# Altium schematic symbol library ProPrj_HTX-easyedapro.SchLib: 117 symbols (part 1 of 2)
Pins are listed as number, name and electrical type; pins without a type are passive.

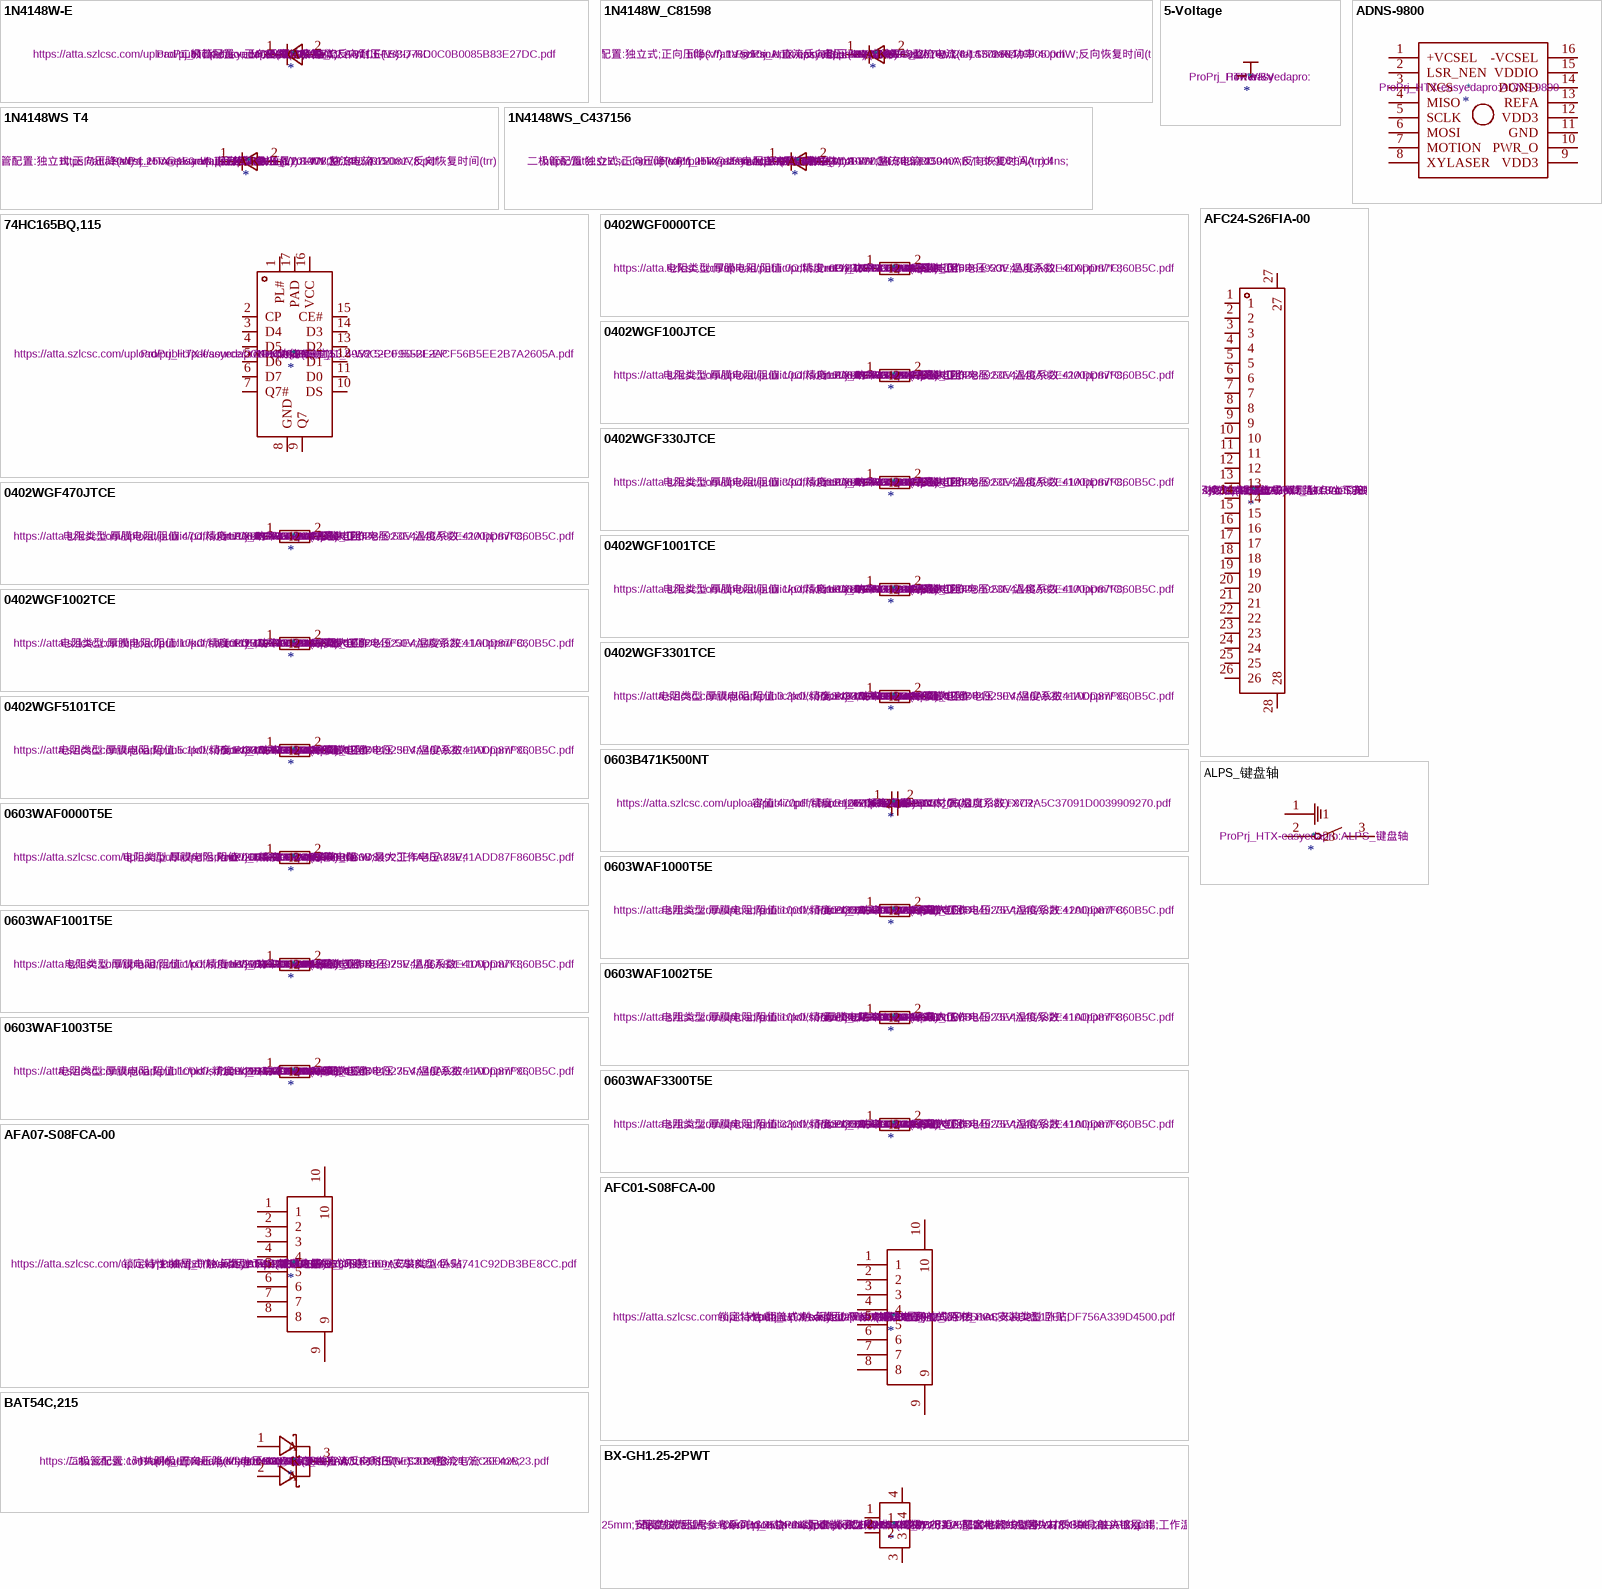
[diagram p0: symbols 1N4148W-E to BX-GH1.25-2PWT]

## 1N4148W-E
designator *  Footprint: ProPrj_HTX-easyedapro:SOD-123_L2.8-W1.6-LS3.7-RD  Supplier: LCSC  Reference: D  Manufacturer Part: 1N4148W-E  Manufacturer: MDD(辰达半导体)  Supplier Part: C41371420  LCSC Part Name: 开关二极管
二极管配置:-;正向压降(Vf):-;直流反向耐压(Vr):-;; Datasheet: https://atta.szlcsc.com/upload/public/pdf/source/20240830/DACFAB1CEFECD76C0C0B0085B83E27DC.pdf; Description_: 二极管配置:-;正向压降(Vf):-;直流反向耐压(Vr):-;
pins: 1 C, 2 A

## 1N4148W_C81598
designator *  Footprint: ProPrj_HTX-easyedapro:SOD-123F_L2.7-W1.6-LS3.8-RD  Supplier: LCSC  Reference: D  Manufacturer Part: 1N4148W  Manufacturer: ST(先科)  Supplier Part: C81598  LCSC Part Name: 电压:75V 电流:150mA
二极管配置:独立式;正向压降(Vf):1V@50mA;直流反向耐压(Vr):75V;平均整流电流(Io):150mA;功率:400mW;反向恢复时间(trr):4ns;; Datasheet: https://atta.szlcsc.com/upload/public/pdf/source/20161024/1477288446905.pdf; Description_: 二极管配置:独立式;正向压降(Vf):1V@50mA;直流反向耐压(Vr):75V;平均整流电流(Io):150mA;功率:400mW;反向恢复时间(trr):4ns;
pins: 1 K, 2 A

## 1N4148WS T4
designator *  Footprint: ProPrj_HTX-easyedapro:SOD-323_L1.8-W1.3-LS2.5-RD  Supplier: LCSC  Reference: D  Manufacturer Part: 1N4148WS  Manufacturer: CJ(江苏长电/长晶)  Supplier Part: C2128  LCSC Part Name: 丝印T4
二极管配置:独立式;正向压降(Vf):1.25V@150mA;直流反向耐压(Vr):100V;整流电流:150mA;反向恢复时间(trr):4ns;; Datasheet: https://atta.szlcsc.com/upload/public/pdf/source/20140809/1457707208178.pdf; Description_: 二极管配置:独立式;正向压降(Vf):1.25V@150mA;直流反向耐压(Vr):100V;整流电流:150mA;反向恢复时间(trr):4ns;
pins: 1 K, 2 A

## 1N4148WS_C437156
designator *  Footprint: ProPrj_HTX-easyedapro:SOD-323_L1.8-W1.3-LS2.5-RD  Supplier: LCSC  Reference: D  Manufacturer Part: 1N4148WS  Manufacturer: MDD(辰达半导体)  Supplier Part: C437156  LCSC Part Name: 电压:100V 电流:150mA
二极管配置:独立式;正向压降(Vf):1.25V@150mA;直流反向耐压(Vr):100V;整流电流:150mA;反向恢复时间(trr):4ns;; Datasheet: https://atta.szlcsc.com/upload/public/pdf/source/20230823/12C4B88004F768DBC940AB716F9D26AA.pdf; Description_: 二极管配置:独立式;正向压降(Vf):1.25V@150mA;直流反向耐压(Vr):100V;整流电流:150mA;反向恢复时间(trr):4ns;
pins: 1 C, 2 A

## 5-Voltage
designator *  Footprint: ProPrj_HTX-easyedapro:  Reference: #PWR
Power-5V; Description_: Power-5V
pins: 1

## 74HC165BQ,115
designator *  Footprint: ProPrj_HTX-easyedapro:DHVQFN-16_L3.5-W2.5-P0.50-BL-EP  Supplier: LCSC  Reference: U  Manufacturer Part: 74HC165BQ,115  Manufacturer: Nexperia(安世)  Supplier Part: C426699
功能:-;; Datasheet: https://atta.szlcsc.com/upload/public/pdf/source/20191114/C456131_4958C2CF9552F2ACF56B5EE2B7A2605A.pdf; Description_: 功能:-;; LCSC Part Name: 74HC165BQ,115
pins: 1 PL#, 2 CP, 3 D4, 4 D5, 5 D6, 6 D7, 7 Q7#, 8 GND, 9 Q7, 10 DS, 11 D0, 12 D1, 13 D2, 14 D3, 15 CE#, 16 VCC, 17 PAD

## 0402WGF0000TCE
designator *  value 0Ω  Footprint: ProPrj_HTX-easyedapro:R0402  Supplier: LCSC  Reference: R  Manufacturer Part: 0402WGF0000TCE  Manufacturer: UNI-ROYAL(厚声)  Supplier Part: C17168  LCSC Part Name: 0Ω ±1% 62.5mW 厚膜电阻
电阻类型:厚膜电阻;阻值:0Ω;精度:±1%;功率:62.5mW;最大工作电压:50V;温度系数:±800ppm/°C;; Datasheet: https://atta.szlcsc.com/upload/public/pdf/source/20200306/C422600_1E6D84923E4A46A82E41ADD87F860B5C.pdf; Description_: 电阻类型:厚膜电阻;阻值:0Ω;精度:±1%;功率:62.5mW;最大工作电压:50V;温度系数:±800ppm/°C;
pins: 1, 2

## 0402WGF100JTCE
designator *  value 10Ω  Footprint: ProPrj_HTX-easyedapro:R0402  Supplier: LCSC  Reference: R  Manufacturer Part: 0402WGF100JTCE  Manufacturer: UNI-ROYAL(厚声)  Supplier Part: C25077  LCSC Part Name: 10Ω ±1% 62.5mW 厚膜电阻
电阻类型:厚膜电阻;阻值:10Ω;精度:±1%;功率:62.5mW;最大工作电压:50V;温度系数:±200ppm/°C;; Datasheet: https://atta.szlcsc.com/upload/public/pdf/source/20200306/C422600_1E6D84923E4A46A82E41ADD87F860B5C.pdf; Description_: 电阻类型:厚膜电阻;阻值:10Ω;精度:±1%;功率:62.5mW;最大工作电压:50V;温度系数:±200ppm/°C;
pins: 1, 2

## 0402WGF330JTCE
designator *  value 33Ω  Footprint: ProPrj_HTX-easyedapro:R0402  Supplier: LCSC  Reference: R  Manufacturer Part: 0402WGF330JTCE  Manufacturer: UNI-ROYAL(厚声)  Supplier Part: C25105  LCSC Part Name: 33Ω ±1% 62.5mW 厚膜电阻
电阻类型:厚膜电阻;阻值:33Ω;精度:±1%;功率:62.5mW;最大工作电压:50V;温度系数:±100ppm/°C;; Datasheet: https://atta.szlcsc.com/upload/public/pdf/source/20200306/C422600_1E6D84923E4A46A82E41ADD87F860B5C.pdf; Description_: 电阻类型:厚膜电阻;阻值:33Ω;精度:±1%;功率:62.5mW;最大工作电压:50V;温度系数:±100ppm/°C;
pins: 1, 2

## 0402WGF470JTCE
designator *  value 47Ω  Footprint: ProPrj_HTX-easyedapro:R0402  Supplier: LCSC  Reference: R  Manufacturer Part: 0402WGF470JTCE  Manufacturer: UNI-ROYAL(厚声)  Supplier Part: C25118  LCSC Part Name: 47Ω ±1% 62.5mW 厚膜电阻
电阻类型:厚膜电阻;阻值:47Ω;精度:±1%;功率:62.5mW;最大工作电压:50V;温度系数:±200ppm/°C;; Datasheet: https://atta.szlcsc.com/upload/public/pdf/source/20200306/C422600_1E6D84923E4A46A82E41ADD87F860B5C.pdf; Description_: 电阻类型:厚膜电阻;阻值:47Ω;精度:±1%;功率:62.5mW;最大工作电压:50V;温度系数:±200ppm/°C;
pins: 1, 2

## 0402WGF1001TCE
designator *  value 1kΩ  Footprint: ProPrj_HTX-easyedapro:R0402  Supplier: LCSC  Reference: R  Manufacturer Part: 0402WGF1001TCE  Manufacturer: UNI-ROYAL(厚声)  Supplier Part: C11702  LCSC Part Name: 1kΩ ±1% 62.5mW 厚膜电阻
电阻类型:厚膜电阻;阻值:1kΩ;精度:±1%;功率:62.5mW;最大工作电压:50V;温度系数:±100ppm/°C;; Datasheet: https://atta.szlcsc.com/upload/public/pdf/source/20200306/C422600_1E6D84923E4A46A82E41ADD87F860B5C.pdf; Description_: 电阻类型:厚膜电阻;阻值:1kΩ;精度:±1%;功率:62.5mW;最大工作电压:50V;温度系数:±100ppm/°C;
pins: 1, 2

## 0402WGF1002TCE
designator *  value 10kΩ  Footprint: ProPrj_HTX-easyedapro:R0402  Supplier: LCSC  Reference: R  Manufacturer Part: 0402WGF1002TCE  Manufacturer: UNI-ROYAL(厚声)  Supplier Part: C25744  LCSC Part Name: 10kΩ ±1% 62.5mW 厚膜电阻
电阻类型:厚膜电阻;阻值:10kΩ;精度:±1%;功率:62.5mW;最大工作电压:50V;温度系数:±100ppm/°C;; Datasheet: https://atta.szlcsc.com/upload/public/pdf/source/20200306/C422600_1E6D84923E4A46A82E41ADD87F860B5C.pdf; Description_: 电阻类型:厚膜电阻;阻值:10kΩ;精度:±1%;功率:62.5mW;最大工作电压:50V;温度系数:±100ppm/°C;
pins: 1, 2

## 0402WGF3301TCE
designator *  value 3.3kΩ  Footprint: ProPrj_HTX-easyedapro:R0402  Supplier: LCSC  Reference: R  Manufacturer Part: 0402WGF3301TCE  Manufacturer: UNI-ROYAL(厚声)  Supplier Part: C25890  LCSC Part Name: 3.3kΩ ±1% 62.5mW 厚膜电阻
电阻类型:厚膜电阻;阻值:3.3kΩ;精度:±1%;功率:62.5mW;最大工作电压:50V;温度系数:±100ppm/°C;; Datasheet: https://atta.szlcsc.com/upload/public/pdf/source/20200306/C422600_1E6D84923E4A46A82E41ADD87F860B5C.pdf; Description_: 电阻类型:厚膜电阻;阻值:3.3kΩ;精度:±1%;功率:62.5mW;最大工作电压:50V;温度系数:±100ppm/°C;
pins: 1, 2

## 0402WGF5101TCE
designator *  value 5.1kΩ  Footprint: ProPrj_HTX-easyedapro:R0402  Supplier: LCSC  Reference: R  Manufacturer Part: 0402WGF5101TCE  Manufacturer: UNI-ROYAL(厚声)  Supplier Part: C25905  LCSC Part Name: 5.1kΩ ±1% 62.5mW 厚膜电阻
电阻类型:厚膜电阻;阻值:5.1kΩ;精度:±1%;功率:62.5mW;最大工作电压:50V;温度系数:±100ppm/°C;; Datasheet: https://atta.szlcsc.com/upload/public/pdf/source/20200306/C422600_1E6D84923E4A46A82E41ADD87F860B5C.pdf; Description_: 电阻类型:厚膜电阻;阻值:5.1kΩ;精度:±1%;功率:62.5mW;最大工作电压:50V;温度系数:±100ppm/°C;
pins: 1, 2

## 0603B471K500NT
designator *  value 470pF  Footprint: ProPrj_HTX-easyedapro:C0603  Supplier: LCSC  Reference: C  Manufacturer Part: 0603B471K500NT  Manufacturer: FH(风华)  Supplier Part: C1620  LCSC Part Name: 470pF ±10% 50V
容值:470pF;精度:±10%;额定电压:50V;材质(温度系数):X7R;; Datasheet: https://atta.szlcsc.com/upload/public/pdf/source/20200305/C486355_26A10D38EF8C2A5C37091D0039909270.pdf; Description_: 容值:470pF;精度:±10%;额定电压:50V;材质(温度系数):X7R;
pins: 1, 2

## 0603WAF0000T5E
designator *  value 0Ω  Footprint: ProPrj_HTX-easyedapro:R0603  Supplier: LCSC  Reference: R  Manufacturer Part: 0603WAF0000T5E  Manufacturer: UNI-ROYAL(厚声)  Supplier Part: C21189  LCSC Part Name: 0Ω ±1% 100mW 厚膜电阻
电阻类型:厚膜电阻;阻值:0Ω;精度:±1%;功率:100mW;最大工作电压:75V;; Datasheet: https://atta.szlcsc.com/upload/public/pdf/source/20200306/C422600_1E6D84923E4A46A82E41ADD87F860B5C.pdf; Description_: 电阻类型:厚膜电阻;阻值:0Ω;精度:±1%;功率:100mW;最大工作电压:75V;
pins: 1, 2

## 0603WAF1000T5E
designator *  value 100Ω  Footprint: ProPrj_HTX-easyedapro:R0603  Supplier: LCSC  Reference: R  Manufacturer Part: 0603WAF1000T5E  Manufacturer: UNI-ROYAL(厚声)  Supplier Part: C22775  LCSC Part Name: 100Ω ±1% 100mW 厚膜电阻
电阻类型:厚膜电阻;阻值:100Ω;精度:±1%;功率:100mW;最大工作电压:75V;温度系数:±200ppm/°C;; Datasheet: https://atta.szlcsc.com/upload/public/pdf/source/20200306/C422600_1E6D84923E4A46A82E41ADD87F860B5C.pdf; Description_: 电阻类型:厚膜电阻;阻值:100Ω;精度:±1%;功率:100mW;最大工作电压:75V;温度系数:±200ppm/°C;
pins: 1, 2

## 0603WAF1001T5E
designator *  value 1kΩ  Footprint: ProPrj_HTX-easyedapro:R0603  Supplier: LCSC  Reference: R  Manufacturer Part: 0603WAF1001T5E  Manufacturer: UNI-ROYAL(厚声)  Supplier Part: C21190  LCSC Part Name: 1kΩ ±1% 100mW 厚膜电阻
电阻类型:厚膜电阻;阻值:1kΩ;精度:±1%;功率:100mW;最大工作电压:75V;温度系数:±100ppm/°C;; Datasheet: https://atta.szlcsc.com/upload/public/pdf/source/20200306/C422600_1E6D84923E4A46A82E41ADD87F860B5C.pdf; Description_: 电阻类型:厚膜电阻;阻值:1kΩ;精度:±1%;功率:100mW;最大工作电压:75V;温度系数:±100ppm/°C;
pins: 1, 2

## 0603WAF1002T5E
designator *  value 10kΩ  Footprint: ProPrj_HTX-easyedapro:R0603  Supplier: LCSC  Reference: R  Manufacturer Part: 0603WAF1002T5E  Manufacturer: UNI-ROYAL(厚声)  Supplier Part: C25804  LCSC Part Name: 厚膜电阻 10kΩ ±1% 100mW
电阻类型:厚膜电阻;阻值:10kΩ;精度:±1%;功率:100mW;最大工作电压:75V;温度系数:±100ppm/°C;; Datasheet: https://atta.szlcsc.com/upload/public/pdf/source/20200306/C422600_1E6D84923E4A46A82E41ADD87F860B5C.pdf; Description_: 电阻类型:厚膜电阻;阻值:10kΩ;精度:±1%;功率:100mW;最大工作电压:75V;温度系数:±100ppm/°C;
pins: 1, 2

## 0603WAF1003T5E
designator *  value 100kΩ  Footprint: ProPrj_HTX-easyedapro:R0603  Supplier: LCSC  Reference: R  Manufacturer Part: 0603WAF1003T5E  Manufacturer: UNI-ROYAL(厚声)  Supplier Part: C25803  LCSC Part Name: 100kΩ ±1% 100mW 厚膜电阻
电阻类型:厚膜电阻;阻值:100kΩ;精度:±1%;功率:100mW;最大工作电压:75V;温度系数:±100ppm/°C;; Datasheet: https://atta.szlcsc.com/upload/public/pdf/source/20200306/C422600_1E6D84923E4A46A82E41ADD87F860B5C.pdf; Description_: 电阻类型:厚膜电阻;阻值:100kΩ;精度:±1%;功率:100mW;最大工作电压:75V;温度系数:±100ppm/°C;
pins: 1, 2

## 0603WAF3300T5E
designator *  value 330Ω  Footprint: ProPrj_HTX-easyedapro:R0603  Supplier: LCSC  Reference: R  Manufacturer Part: 0603WAF3300T5E  Manufacturer: UNI-ROYAL(厚声)  Supplier Part: C23138  LCSC Part Name: 330Ω ±1% 100mW 厚膜电阻
电阻类型:厚膜电阻;阻值:330Ω;精度:±1%;功率:100mW;最大工作电压:75V;温度系数:±100ppm/°C;; Datasheet: https://atta.szlcsc.com/upload/public/pdf/source/20200306/C422600_1E6D84923E4A46A82E41ADD87F860B5C.pdf; Description_: 电阻类型:厚膜电阻;阻值:330Ω;精度:±1%;功率:100mW;最大工作电压:75V;温度系数:±100ppm/°C;
pins: 1, 2

## ADNS-9800
designator *  Footprint: ProPrj_HTX-easyedapro:ADNS-9800
pins: 1 +VCSEL, 2 LSR_NEN, 3 NCS, 4 MISO, 5 SCLK, 6 MOSI, 7 MOTION, 8 XYLASER, 9 VDD3, 10 PWR_O, 11 GND, 12 VDD3, 13 REFA, 14 DGND, 15 VDDIO, 16 -VCSEL

## AFA07-S08FCA-00
designator *  Footprint: ProPrj_HTX-easyedapro:FPC-SMD_8P-P1.00_LCS-XJ  Supplier: LCSC  Reference: FPC  Manufacturer Part: AFA07-S08FCA-00  Manufacturer: JS(钜硕电子)  Supplier Part: C262714  LCSC Part Name: 间距:1mm P数:8P 抽屉式 下接
锁定特性:抽屉式;触点类型:下接;触点数量:8P;间距:1mm;安装类型:卧贴;; Datasheet: https://atta.szlcsc.com/upload/public/pdf/source/20191217/C262716_30B15E9A77BFCA4A54741C92DB3BE8CC.pdf; Description_: 锁定特性:抽屉式;触点类型:下接;触点数量:8P;间距:1mm;安装类型:卧贴;
pins: 1, 2, 3, 4, 5, 6, 7, 8, 9, 10

## AFC01-S08FCA-00
designator *  Footprint: ProPrj_HTX-easyedapro:FPC-SMD_P0.50-8P_FGS-XJ-H2.0  Supplier: LCSC  Reference: FPC  Manufacturer Part: AFC01-S08FCA-00  Manufacturer: JS(钜硕电子)  Supplier Part: C262657  LCSC Part Name: 间距:0.5mm P数:8P 翻盖式 下接
锁定特性:翻盖式;触点类型:下接;触点数量:8P;间距:0.5mm;安装类型:卧贴;; Datasheet: https://atta.szlcsc.com/upload/public/pdf/source/20190816/C413942_2A72D1AC756EAE17EEDF756A339D4500.pdf; Description_: 锁定特性:翻盖式;触点类型:下接;触点数量:8P;间距:0.5mm;安装类型:卧贴;
pins: 1, 2, 3, 4, 5, 6, 7, 8, 9, 10

## AFC24-S26FIA-00
designator *  Footprint: ProPrj_HTX-easyedapro:FPC-SMD_AFC24-S26FIA  Supplier: LCSC  Reference: X  Manufacturer Part: AFC24-S26FIA-00  Manufacturer: JS(钜硕电子)  Supplier Part: C262684  LCSC Part Name: 间距:0.5mm P数:26P 翻盖式 双侧触点/上下接
锁定特性:翻盖式;触点类型:双侧触点/上下接;触点数量:26P;间距:0.5mm;安装类型:卧贴;工作温度范围:-;; Datasheet: https://atta.szlcsc.com/upload/public/pdf/source/20201020/C262682_4418ACDA99370B54C7579F9B07EB16A1.pdf; Description_: 锁定特性:翻盖式;触点类型:双侧触点/上下接;触点数量:26P;间距:0.5mm;安装类型:卧贴;工作温度范围:-;
pins: 1, 2, 3, 4, 5, 6, 7, 8, 9, 10, 11, 12, 13, 14, 15, 16, 17, 18, 19, 20, 21, 22, 23, 24, 25, 26, 27, 28

## ALPS_键盘轴
designator *  Footprint: ProPrj_HTX-easyedapro:ALPS_键盘轴
pins: 1, 2, 3

## BAT54C,215
designator *  Footprint: ProPrj_HTX-easyedapro:SOT-23-3_L2.9-W1.6-P1.90-LS2.8-BR  Supplier: LCSC  Reference: D  Manufacturer Part: BAT54C,215  Manufacturer: Nexperia(安世)  Supplier Part: C37704  LCSC Part Name: 电压:30V 电流:200mA
二极管配置:1对共阴极;正向压降(Vf):800mV@100mA;直流反向耐压(Vr):30V;整流电流:200mA;; Datasheet: https://atta.szlcsc.com/upload/public/pdf/source/20240724/0FA4CD208E70EC919F34217EC6E42B23.pdf; Description_: 二极管配置:1对共阴极;正向压降(Vf):800mV@100mA;直流反向耐压(Vr):30V;整流电流:200mA;
pins: 1 A, 2 A, 3 K

## BX-GH1.25-2PWT
designator *  Footprint: ProPrj_HTX-easyedapro:CONN-SMD_2P-P1.25_BX-GH1.25-2PWT  Supplier: LCSC  Reference: U  Manufacturer Part: BX-GH1.25-2PWT  Manufacturer: Bossie(博锡)  Supplier Part: C18077718  LCSC Part Name: 配套胶壳型号：BX-GH1.25-2PJK 配套端子型号：BX-GH1.25-DZ 配套杜邦线型号：BX-GH1.25-2PBXC
插针结构:1x2P;间距:1.25mm;安装方式:卧贴;参考系列:GH;总PIN数:2P;排数:1;每排PIN数:2;行距:-;额定电流:1A;触头材质:磷铜;触头镀层:锡;工作温度范围:-25°C~+85°C;; Datasheet: https://atta.szlcsc.com/upload/public/pdf/source/20231017/25DD0A5C9398B9B8D9D2789B9E1BDAD3.pdf; Description_: 插针结构:1x2P;间距:1.25mm;安装方式:卧贴;参考系列:GH;总PIN数:2P;排数:1;每排PIN数:2;行距:-;额定电流:1A;触头材质:磷铜;触头镀层:锡;工作温度范围:-25°C~+85°C;
pins: 1, 2, 3, 4

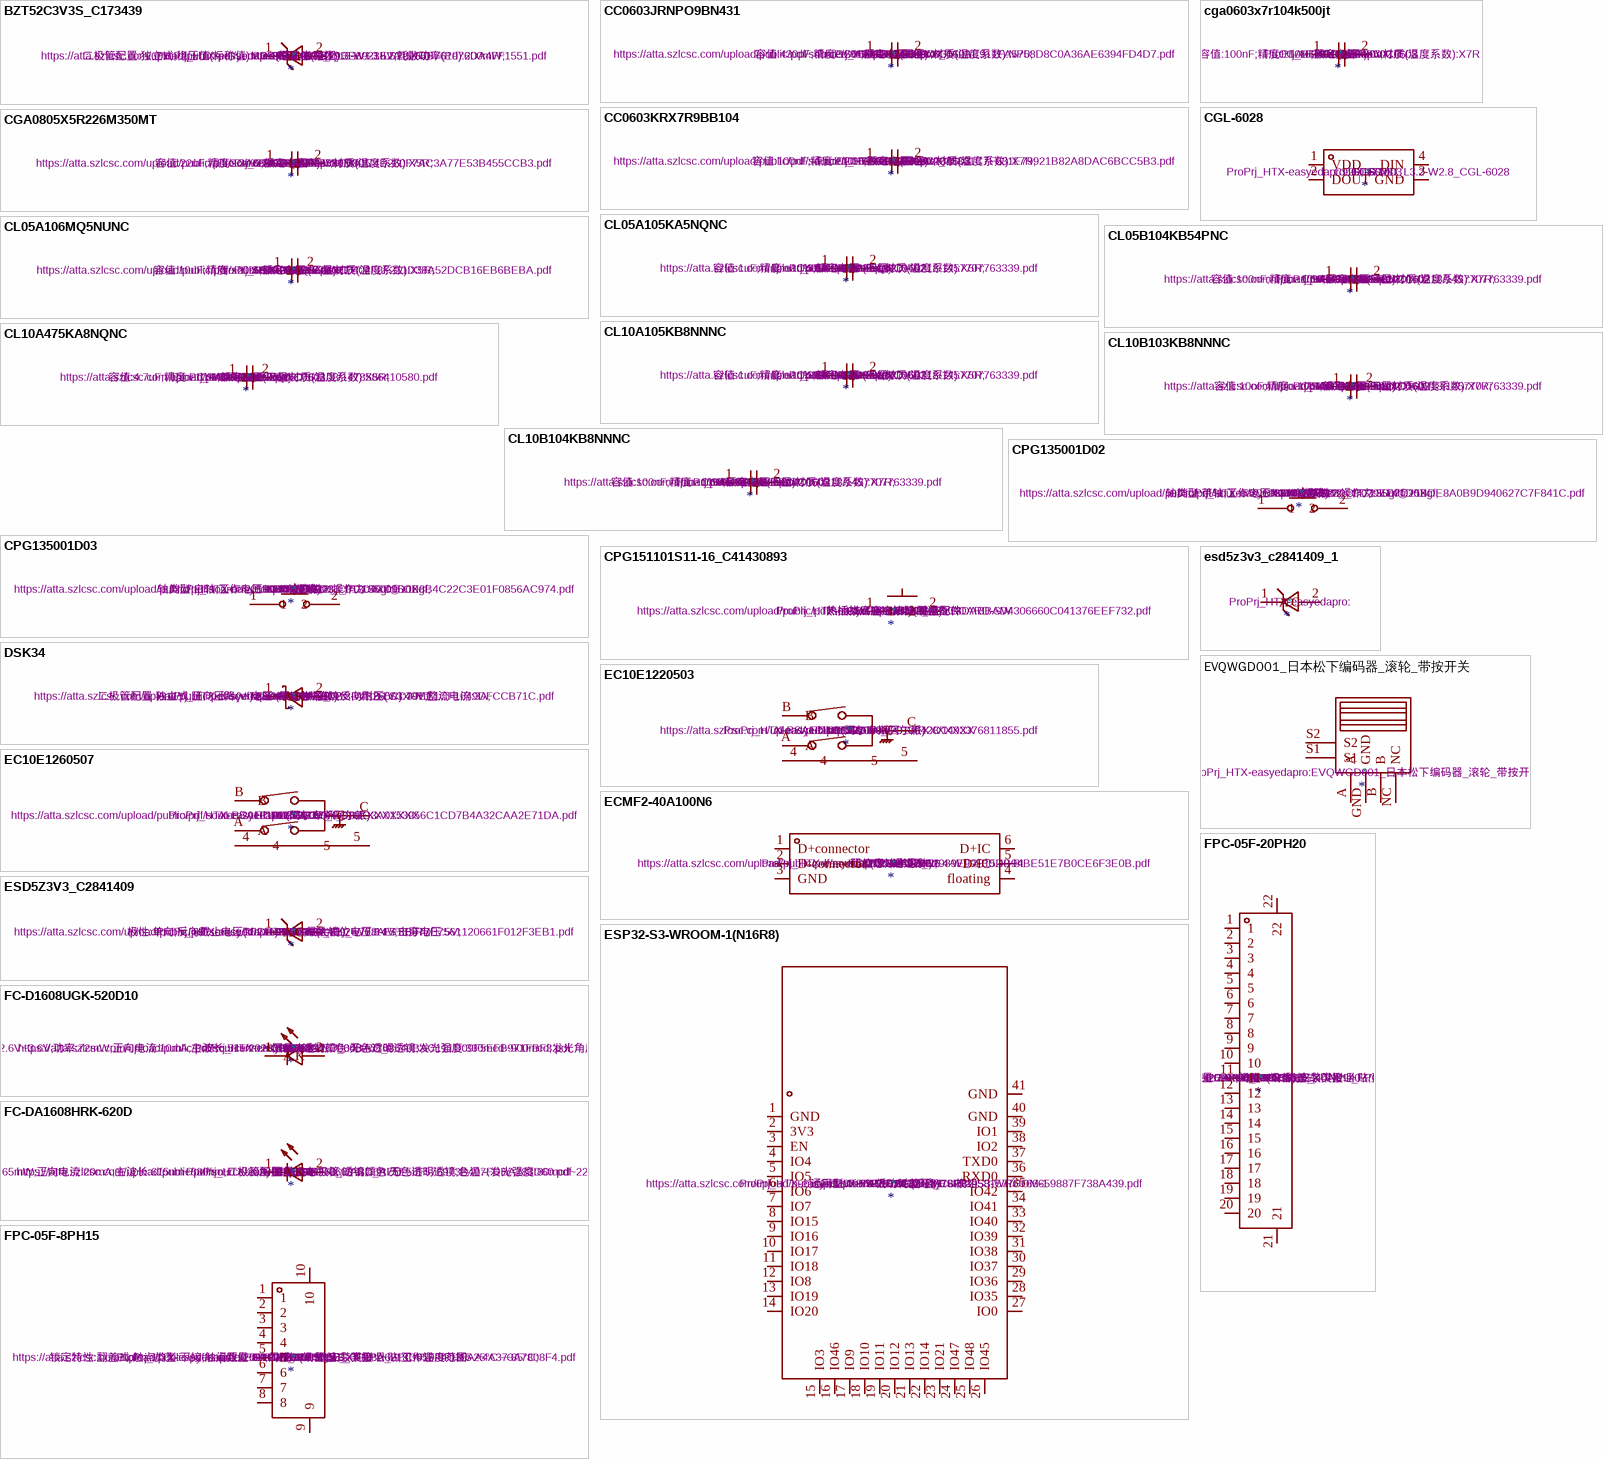
[diagram p1: symbols BZT52C3V3S_C173439 to FPC-05F-20PH20]

## BZT52C3V3S_C173439
designator *  Footprint: ProPrj_HTX-easyedapro:SOD-323_L1.8-W1.3-LS2.5-RD  Supplier: LCSC  Reference: D  Manufacturer Part: BZT52C3V3S  Manufacturer: MDD(辰达半导体)  Supplier Part: C173439
二极管配置:独立式;稳压值(标称值):3.3V;稳压值(范围):3.1V~3.5V;耗散功率(Pd):200mW;; Datasheet: https://atta.szlcsc.com/upload/public/pdf/source/20241121/729EE6921E2A1D86B761976DA4FF1551.pdf; Description_: 二极管配置:独立式;稳压值(标称值):3.3V;稳压值(范围):3.1V~3.5V;耗散功率(Pd):200mW;; LCSC Part Name: BZT52C3V3S
pins: 1, 2

## CC0603JRNPO9BN431
designator *  value 430pF  Footprint: ProPrj_HTX-easyedapro:C0603  Supplier: LCSC  Reference: C  Manufacturer Part: CC0603JRNPO9BN431  Manufacturer: YAGEO(国巨)  Supplier Part: C309472  LCSC Part Name: 430pF ±5% 50V
容值:430pF;精度:±5%;额定电压:50V;材质(温度系数):NP0;; Datasheet: https://atta.szlcsc.com/upload/public/pdf/source/20191125/C354976_4A9AE911FA5758D8C0A36AE6394FD4D7.pdf; Description_: 容值:430pF;精度:±5%;额定电压:50V;材质(温度系数):NP0;
pins: 1, 2

## CC0603KRX7R9BB104
designator *  value 100nF  Footprint: ProPrj_HTX-easyedapro:C0603  Supplier: LCSC  Reference: C  Manufacturer Part: CC0603KRX7R9BB104  Manufacturer: YAGEO(国巨)  Supplier Part: C14663  LCSC Part Name: 100nF ±10% 50V
容值:100nF;精度:±10%;额定电压:50V;材质(温度系数):X7R;; Datasheet: https://atta.szlcsc.com/upload/public/pdf/source/20180910/C282072_33301C7F631E79921B82A8DAC6BCC5B3.pdf; Description_: 容值:100nF;精度:±10%;额定电压:50V;材质(温度系数):X7R;
pins: 1, 2

## cga0603x7r104k500jt
designator *  value 100nF  Footprint: ProPrj_HTX-easyedapro:C0603  Supplier: LCSC  Reference: C  Manufacturer Part: CGA0603X7R104K500JT  Manufacturer: HRE(芯声)  Supplier Part: C6119867  LCSC Part Name: 100nF ±10% 50V
容值:100nF;精度:±10%;额定电压:50V;材质(温度系数):X7R;; Description_: 容值:100nF;精度:±10%;额定电压:50V;材质(温度系数):X7R;
pins: 1, 2

## CGA0805X5R226M350MT
designator *  value 22uF  Footprint: ProPrj_HTX-easyedapro:C0805  Supplier: LCSC  Reference: C  Manufacturer Part: CGA0805X5R226M350MT  Manufacturer: HRE(芯声)  Supplier Part: C6119901  LCSC Part Name: 22uF ±20% 35V
容值:22uF;精度:±20%;额定电压:35V;材质(温度系数):X5R;; Datasheet: https://atta.szlcsc.com/upload/public/pdf/source/20231129/D589D0CC4D260F7AC3A77E53B455CCB3.pdf; Description_: 容值:22uF;精度:±20%;额定电压:35V;材质(温度系数):X5R;
pins: 1, 2

## CGL-6028
designator *  Footprint: ProPrj_HTX-easyedapro:LED-SMD_L3.2-W2.8_CGL-6028  Supplier: LCSC  Reference: U  Manufacturer Part: CGL-6028  Supplier Part: C9900171003
LCSC Part Name: CGL-6028
pins: 1 VDD, 2 DOUT, 3 GND, 4 DIN

## CL05A105KA5NQNC
designator *  value 1uF  Footprint: ProPrj_HTX-easyedapro:C0402  Supplier: LCSC  Reference: C  Manufacturer Part: CL05A105KA5NQNC  Manufacturer: SAMSUNG(三星)  Supplier Part: C52923  LCSC Part Name: 1uF ±10% 25V
容值:1uF;精度:±10%;额定电压:25V;材质(温度系数):X5R;; Datasheet: https://atta.szlcsc.com/upload/public/pdf/source/20160218/1457707763339.pdf; Description_: 容值:1uF;精度:±10%;额定电压:25V;材质(温度系数):X5R;
pins: 1, 2

## CL05A106MQ5NUNC
designator *  value 10uF  Footprint: ProPrj_HTX-easyedapro:C0402  Supplier: LCSC  Reference: C  Manufacturer Part: CL05A106MQ5NUNC  Manufacturer: SAMSUNG(三星)  Supplier Part: C15525  LCSC Part Name: 10uF ±20% 6.3V
容值:10uF;精度:±20%;额定电压:6.3V;材质(温度系数):X5R;; Datasheet: https://atta.szlcsc.com/upload/public/pdf/source/20220823/2B02EE04F8F211D38A52DCB16EB6BEBA.pdf; Description_: 容值:10uF;精度:±20%;额定电压:6.3V;材质(温度系数):X5R;
pins: 1, 2

## CL05B104KB54PNC
designator *  value 100nF  Footprint: ProPrj_HTX-easyedapro:C0402  Supplier: LCSC  Reference: C  Manufacturer Part: CL05B104KB54PNC  Manufacturer: SAMSUNG(三星)  Supplier Part: C307331  LCSC Part Name: 100nF ±10% 50V
容值:100nF;精度:±10%;额定电压:50V;材质(温度系数):X7R;; Datasheet: https://atta.szlcsc.com/upload/public/pdf/source/20160218/1457707763339.pdf; Description_: 容值:100nF;精度:±10%;额定电压:50V;材质(温度系数):X7R;
pins: 1, 2

## CL10A105KB8NNNC
designator *  value 1uF  Footprint: ProPrj_HTX-easyedapro:C0603  Supplier: LCSC  Reference: C  Manufacturer Part: CL10A105KB8NNNC  Manufacturer: SAMSUNG(三星)  Supplier Part: C15849  LCSC Part Name: 1uF ±10% 50V
容值:1uF;精度:±10%;额定电压:50V;材质(温度系数):X5R;; Datasheet: https://atta.szlcsc.com/upload/public/pdf/source/20160218/1457707763339.pdf; Description_: 容值:1uF;精度:±10%;额定电压:50V;材质(温度系数):X5R;
pins: 1, 2

## CL10A475KA8NQNC
designator *  value 4.7uF  Footprint: ProPrj_HTX-easyedapro:C0603  Supplier: LCSC  Reference: C  Manufacturer Part: CL10A475KA8NQNC  Manufacturer: SAMSUNG(三星)  Supplier Part: C69335  LCSC Part Name: 4.7uF ±10% 25V
容值:4.7uF;精度:±10%;额定电压:25V;材质(温度系数):X5R;; Datasheet: https://atta.szlcsc.com/upload/public/pdf/source/20161108/1478586410580.pdf; Description_: 容值:4.7uF;精度:±10%;额定电压:25V;材质(温度系数):X5R;
pins: 1, 2

## CL10B103KB8NNNC
designator *  value 10nF  Footprint: ProPrj_HTX-easyedapro:C0603  Supplier: LCSC  Reference: C  Manufacturer Part: CL10B103KB8NNNC  Manufacturer: SAMSUNG(三星)  Supplier Part: C1589  LCSC Part Name: 10nF ±10% 50V
容值:10nF;精度:±10%;额定电压:50V;材质(温度系数):X7R;; Datasheet: https://atta.szlcsc.com/upload/public/pdf/source/20160218/1457707763339.pdf; Description_: 容值:10nF;精度:±10%;额定电压:50V;材质(温度系数):X7R;
pins: 1, 2

## CL10B104KB8NNNC
designator *  value 100nF  Footprint: ProPrj_HTX-easyedapro:C0603  Supplier: LCSC  Reference: C  Manufacturer Part: CL10B104KB8NNNC  Manufacturer: SAMSUNG(三星)  Supplier Part: C1591  LCSC Part Name: 100nF ±10% 50V
容值:100nF;精度:±10%;额定电压:50V;材质(温度系数):X7R;; Datasheet: https://atta.szlcsc.com/upload/public/pdf/source/20160218/1457707763339.pdf; Description_: 容值:100nF;精度:±10%;额定电压:50V;材质(温度系数):X7R;
pins: 1, 2

## CPG135001D02
designator *  Footprint: ProPrj_HTX-easyedapro:KEY-TH_CPG135001D0X  Supplier: LCSC  Reference: SW  Manufacturer Part: CPG135001D02  Manufacturer: Kailh(凯华)  Supplier Part: C400230  LCSC Part Name: CHOC 茶轴
轴类型:茶轴;工作电压:12V;针脚数:2;操作力:50gf@±10gf;; Datasheet: https://atta.szlcsc.com/upload/public/pdf/source/20190626/C400230_CD79EE7C25BDE8A0B9D940627C7F841C.pdf; Description_: 轴类型:茶轴;工作电压:12V;针脚数:2;操作力:50gf@±10gf;
pins: 1, 2

## CPG135001D03
designator *  Footprint: ProPrj_HTX-easyedapro:KEY-TH_CPG135001D0X  Supplier: LCSC  Reference: SW  Manufacturer Part: CPG135001D03  Manufacturer: Kailh(凯华)  Supplier Part: C400231  LCSC Part Name: CHOC 白轴
轴类型:白轴;工作电压:12V;针脚数:2;操作力:50gf@±10gf;; Datasheet: https://atta.szlcsc.com/upload/public/pdf/source/20190626/C400231_01804CD96CE8B4C22C3E01F0856AC974.pdf; Description_: 轴类型:白轴;工作电压:12V;针脚数:2;操作力:50gf@±10gf;
pins: 1, 2

## CPG151101S11-16_C41430893
designator *  Footprint: ProPrj_HTX-easyedapro:SMD_KEYBOARD-SW  Supplier: LCSC  Reference: U  Manufacturer Part: CPG151101S11-16  Manufacturer: HanElectricity(瀚源)  Supplier Part: C41430893
热插拔底座连接器 键盘配件; Datasheet: https://atta.szlcsc.com/upload/public/pdf/source/20241016/CAB9C3DABBAD4306660C041376EEF732.pdf; Description_: 热插拔底座连接器 键盘配件; LCSC Part Name: 热插拔底座连接器 键盘配件
pins: 1, 2

## DSK34
designator *  Footprint: ProPrj_HTX-easyedapro:SOD-123_L2.8-W1.8-LS3.7-RD  Supplier: LCSC  Reference: D  Manufacturer Part: DSK34  Manufacturer: MDD(辰达半导体)  Supplier Part: C41029  LCSC Part Name: 电压:40V 电流:3A
二极管配置:独立式;正向压降(Vf):550mV@3A;直流反向耐压(Vr):40V;整流电流:3A;; Datasheet: https://atta.szlcsc.com/upload/public/pdf/source/20230823/59DBCD4B265CD39EE1CF1649DFCCB71C.pdf; Description_: 二极管配置:独立式;正向压降(Vf):550mV@3A;直流反向耐压(Vr):40V;整流电流:3A;
pins: 1 K, 2 A

## EC10E1220503
designator *  Footprint: ProPrj_HTX-easyedapro:SW-TH_EC10EXXXXXXX  Supplier: LCSC  Reference: SW  Manufacturer Part: EC10E1220503  Manufacturer: ALPSALPINE(阿尔卑斯阿尔派)  Supplier Part: C110291
Datasheet: https://atta.szlcsc.com/upload/public/pdf/source/20170428/1493376811855.pdf; LCSC Part Name: EC10E1220503
pins: 4, 5, A, B, C

## EC10E1260507
designator *  Footprint: ProPrj_HTX-easyedapro:SW-TH_EC10EXXXXXXX  Supplier: LCSC  Reference: SW  Manufacturer Part: EC10E1260507  Manufacturer: ALPSALPINE(阿尔卑斯阿尔派)  Supplier Part: C470633
Datasheet: https://atta.szlcsc.com/upload/public/pdf/source/20191216/C470744_98DC3A0153956C1CD7B4A32CAA2E71DA.pdf; LCSC Part Name: EC10E1260507
pins: 4, 5, A, B, C

## ECMF2-40A100N6
designator *  value 3Ω  Footprint: ProPrj_HTX-easyedapro:TDFN-6_L1.4-W1.2-P0.40-BL  Supplier: LCSC  Reference: L  Manufacturer Part: ECMF2-40A100N6  Manufacturer: ST(意法半导体)  Supplier Part: C5267592
阻值:3Ω;通道数:2;; Datasheet: https://atta.szlcsc.com/upload/public/pdf/source/20230906/1E2989E99E15DB94BE51E7B0CE6F3E0B.pdf; Description_: 阻值:3Ω;通道数:2;; LCSC Part Name: ECMF2-40A100N6
pins: 1 D+connector, 2 D-connector, 3 GND, 4 floating, 5 D-IC, 6 D+IC

## ESD5Z3V3_C2841409
designator *  Footprint: ProPrj_HTX-easyedapro:SOD-523_L1.2-W0.8-LS1.6-RD  Supplier: LCSC  Reference: D  Manufacturer Part: ESD5Z3V3  Manufacturer: TECH PUBLIC(台舟)  Supplier Part: C2841409
极性:单向;反向截止电压(Vrwm):3.3V;最大钳位电压:14V;击穿电压:5V;; Datasheet: https://atta.szlcsc.com/upload/public/pdf/source/20211010/C2841409_E778AEF8B577E7561120661F012F3EB1.pdf; Description_: 极性:单向;反向截止电压(Vrwm):3.3V;最大钳位电压:14V;击穿电压:5V;; LCSC Part Name: ESD5Z3V3
pins: 1 C, 2 A

## esd5z3v3_c2841409_1
designator *  Footprint: ProPrj_HTX-easyedapro:  Reference: D
pins: 1 C, 2 A

## ESP32-S3-WROOM-1(N16R8)
designator *  Footprint: ProPrj_HTX-easyedapro:WIRELM-SMD_ESP32-S3-WROOM-1  Supplier: LCSC  Reference: U  Manufacturer Part: ESP32-S3-WROOM-1-N16R8  Manufacturer: ESPRESSIF(乐鑫)  Supplier Part: C2913202  LCSC Part Name: 通用型Wi-Fi+低功耗蓝牙MCU模组
Datasheet: https://atta.szlcsc.com/upload/public/pdf/source/20220705/4E799F39581577F766659887F738A439.pdf
pins: 1 GND, 2 3V3, 3 EN, 4 IO4, 5 IO5, 6 IO6, 7 IO7, 8 IO15, 9 IO16, 10 IO17, 11 IO18, 12 IO8, 13 IO19, 14 IO20, 15 IO3, 16 IO46, 17 IO9, 18 IO10, 19 IO11, 20 IO12, 21 IO13, 22 IO14, 23 IO21, 24 IO47, 25 IO48, 26 IO45, 27 IO0, 28 IO35, 29 IO36, 30 IO37, 31 IO38, 32 IO39, 33 IO40, 34 IO41, 35 IO42, 36 RXD0, 37 TXD0, 38 IO2, 39 IO1, 40 GND, 41 GND

## EVQWGD001_日本松下编码器_滚轮_带按开关
designator *  Footprint: ProPrj_HTX-easyedapro:EVQWGD001_日本松下编码器_滚轮_带按开关
pins: A, B, GND, NC, S1, S2

## FC-D1608UGK-520D10
designator *  Footprint: ProPrj_HTX-easyedapro:LED0603-RD_1  Supplier: LCSC  Reference: LED  Manufacturer Part: NCD0603G1  Manufacturer: 国星光电  Supplier Part: C84267
发光颜色:翠绿色;正向电压(VF):2.6V~3.6V;功率:72mW;正向电流:10mA;主波长:515nm~530nm;透镜颜色:无色透明透镜;发光强度:330mcd~900mcd;发光角度:130°;工作温度:-30°C~+85°C;; Datasheet: https://atta.szlcsc.com/upload/public/pdf/source/20200820/C84267_04BA7703640BAC111D09F5EFB971FBF3.pdf; Description_: 发光颜色:翠绿色;正向电压(VF):2.6V~3.6V;功率:72mW;正向电流:10mA;主波长:515nm~530nm;透镜颜色:无色透明透镜;发光强度:330mcd~900mcd;发光角度:130°;工作温度:-30°C~+85°C;; LCSC Part Name: NCD0603G1
pins: 1 K, 2 A

## FC-DA1608HRK-620D
designator *  Footprint: ProPrj_HTX-easyedapro:LED0603-RD_RED  Supplier: LCSC  Reference: LED  Manufacturer Part: NCD0603R1  Manufacturer: 国星光电  Supplier Part: C84263
灯头类型:-;发光颜色:红色;正向电压(VF):1.6V~2.6V;功率:65mW;正向电流:20mA;主波长:615nm~630nm;二极管配置:独立二极管;透镜颜色:无色透明透镜;色温:-;发光强度:80mcd~220mcd;发光角度:130°;载带方式:-;工作温度:-30°C~+85°C;; Datasheet: https://atta.szlcsc.com/upload/public/pdf/source/20200820/C84263_DABC6A75E58F576973B407FDBA283D60.pdf; Description_: 灯头类型:-;发光颜色:红色;正向电压(VF):1.6V~2.6V;功率:65mW;正向电流:20mA;主波长:615nm~630nm;二极管配置:独立二极管;透镜颜色:无色透明透镜;色温:-;发光强度:80mcd~220mcd;发光角度:130°;载带方式:-;工作温度:-30°C~+85°C;; LCSC Part Name: NCD0603R1
pins: 1 K, 2 A

## FPC-05F-8PH15
designator *  Footprint: ProPrj_HTX-easyedapro:FPC-SMD_8P-P0.50_XUNPU_FPC-05F-8PH15  Supplier: LCSC  Reference: FPC  Manufacturer Part: FPC-05F-8PH15  Manufacturer: XUNPU(讯普)  Supplier Part: C2856815  LCSC Part Name: 间距:0.5mm P数:8P 翻盖式 下接
锁定特性:翻盖式;触点类型:下接;触点数量:8P;间距:0.5mm;安装类型:卧贴;工作温度范围:-25°C~+85°C;; Datasheet: https://atta.szlcsc.com/upload/public/pdf/source/20210922/C2856815_0EE8A6918D919F4C35AA4A373A7808F4.pdf; Description_: 锁定特性:翻盖式;触点类型:下接;触点数量:8P;间距:0.5mm;安装类型:卧贴;工作温度范围:-25°C~+85°C;
pins: 1, 2, 3, 4, 5, 6, 7, 8, 9, 10

## FPC-05F-20PH20
designator *  Footprint: ProPrj_HTX-easyedapro:FPC-SMD_20P-P0.50_XUNPU_FPC-05F-20PH20  Supplier: LCSC  Reference: FPC  Manufacturer Part: FPC-05F-20PH20  Manufacturer: XUNPU(讯普)  Supplier Part: C2856803  LCSC Part Name: 间距:0.5mm P数:20P 翻盖式 下接
锁定特性:翻盖式;触点类型:下接;触点数量:20P;间距:0.5mm;安装类型:卧贴;工作温度范围:-25°C~+85°C;; Datasheet: https://atta.szlcsc.com/upload/public/pdf/source/20210922/C2856803_40AC94077DCDAD136B773224EC50E565.pdf; Description_: 锁定特性:翻盖式;触点类型:下接;触点数量:20P;间距:0.5mm;安装类型:卧贴;工作温度范围:-25°C~+85°C;
pins: 1, 2, 3, 4, 5, 6, 7, 8, 9, 10, 11, 12, 13, 14, 15, 16, 17, 18, 19, 20, 21, 22

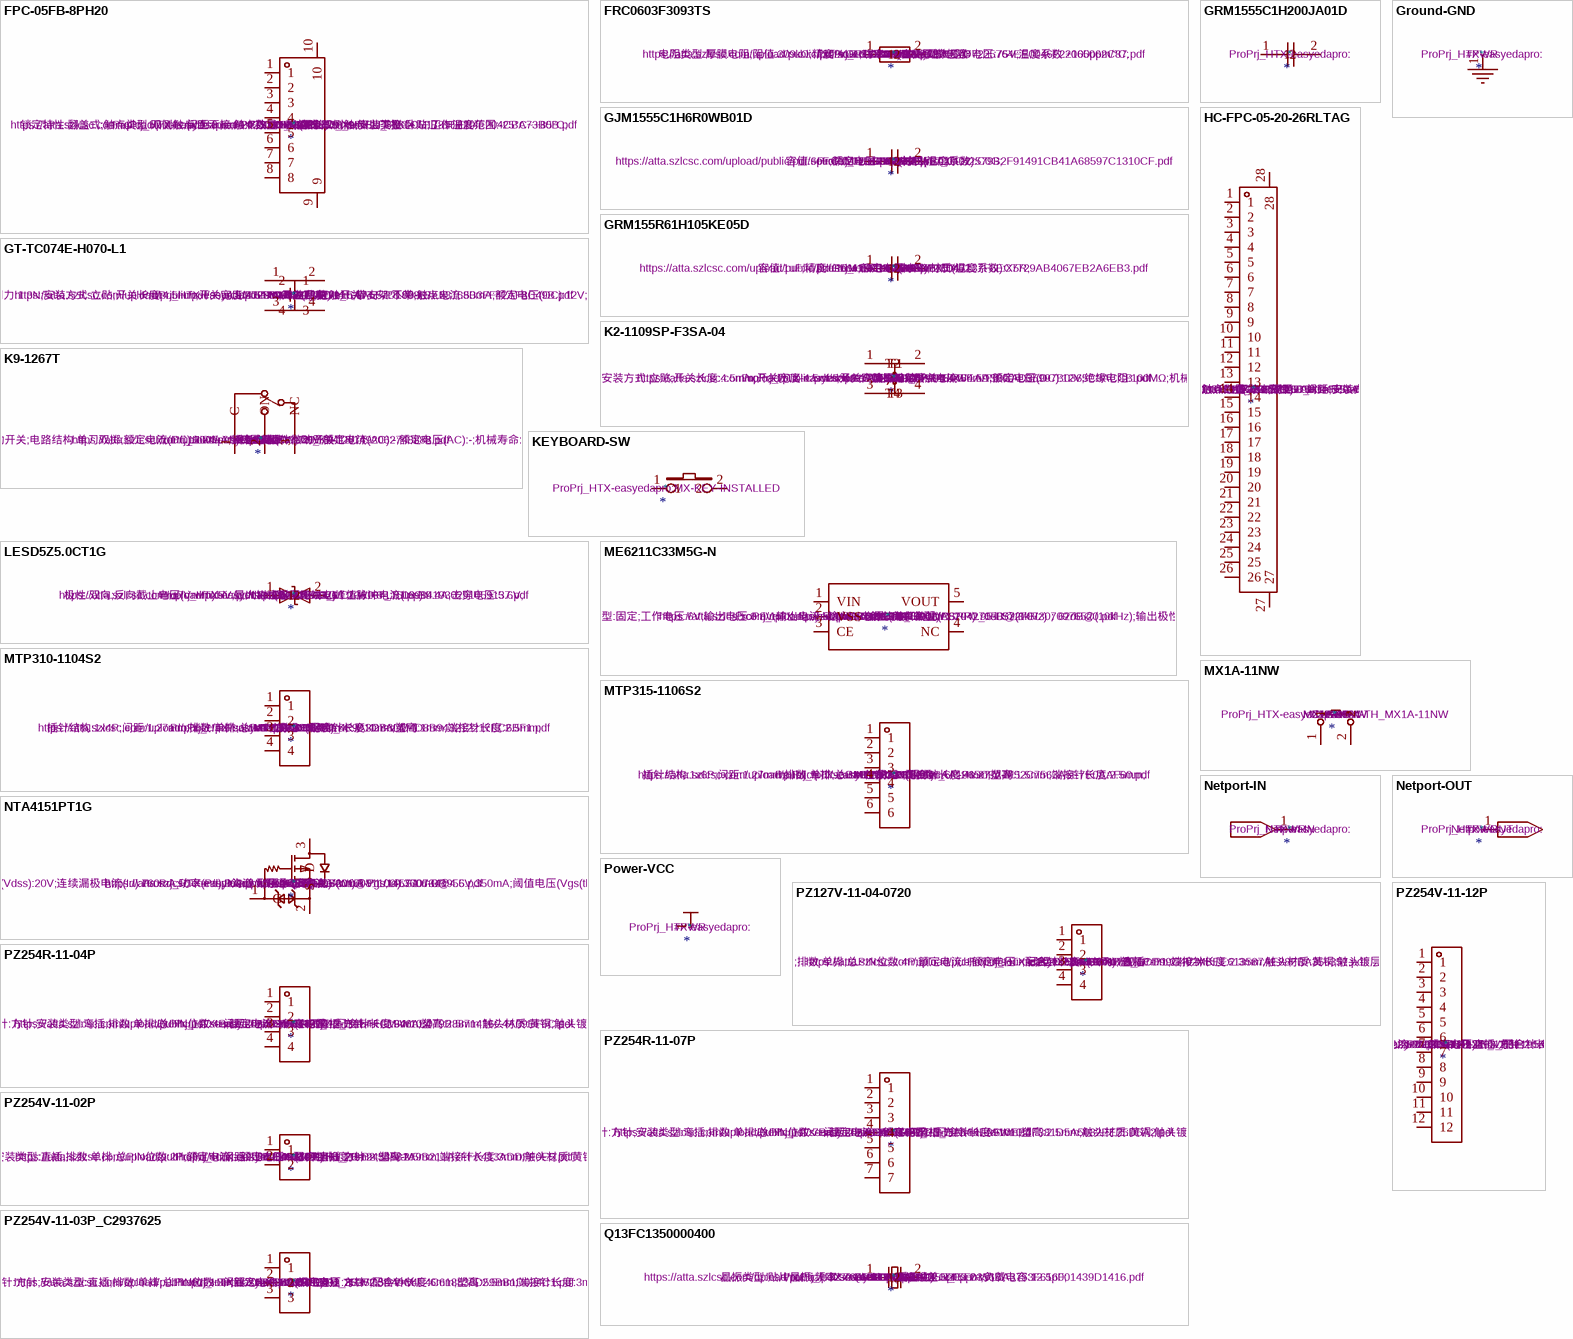
[diagram p2: symbols FPC-05FB-8PH20 to Q13FC1350000400]

## FPC-05FB-8PH20
designator *  Footprint: ProPrj_HTX-easyedapro:FPC-SMD_8P-P0.50_XUNPU_FPC-05FB-8PH20  Supplier: LCSC  Reference: FPC  Manufacturer Part: FPC-05FB-8PH20  Manufacturer: XUNPU(讯普)  Supplier Part: C2856828  LCSC Part Name: 间距:0.5mm P数:8P 翻盖式 双侧触点/上下接
锁定特性:翻盖式;触点类型:双侧触点/上下接;触点数量:8P;间距:0.5mm;安装类型:卧贴;工作温度范围:-25°C~+85°C;; Datasheet: https://atta.szlcsc.com/upload/public/pdf/source/20210922/C2856828_96968FB666CC1781EEE4F204CBA73B0B.pdf; Description_: 锁定特性:翻盖式;触点类型:双侧触点/上下接;触点数量:8P;间距:0.5mm;安装类型:卧贴;工作温度范围:-25°C~+85°C;
pins: 1, 2, 3, 4, 5, 6, 7, 8, 9, 10

## FRC0603F3093TS
designator *  value 309kΩ  Footprint: ProPrj_HTX-easyedapro:R0603  Supplier: LCSC  Reference: U  Manufacturer Part: FRC0603F3093TS  Manufacturer: FOJAN(富捷)  Supplier Part: C2999532  LCSC Part Name: 309kΩ ±1% 100mW 厚膜电阻
电阻类型:厚膜电阻;阻值:309kΩ;精度:±1%;功率:100mW;最大工作电压:75V;温度系数:±100ppm/°C;; Datasheet: https://atta.szlcsc.com/upload/public/pdf/source/20211221/925EC7D7225764EE0046F22065062C87.pdf; Description_: 电阻类型:厚膜电阻;阻值:309kΩ;精度:±1%;功率:100mW;最大工作电压:75V;温度系数:±100ppm/°C;
pins: 1, 2

## GJM1555C1H6R0WB01D
designator *  value 6pF  Footprint: ProPrj_HTX-easyedapro:C0402  Supplier: LCSC  Reference: C  Manufacturer Part: GJM1555C1H6R0WB01D  Manufacturer: muRata(村田)  Supplier Part: C882557  LCSC Part Name: 6pF 50V
容值:6pF;额定电压:50V;材质(温度系数):C0G;; Datasheet: https://atta.szlcsc.com/upload/public/pdf/source/20201228/C882557_CC42579B2F91491CB41A68597C1310CF.pdf; Description_: 容值:6pF;额定电压:50V;材质(温度系数):C0G;
pins: 1, 2

## GRM155R61H105KE05D
designator *  value 1uF  Footprint: ProPrj_HTX-easyedapro:C0402  Supplier: LCSC  Reference: C  Manufacturer Part: GRM155R61H105KE05D  Manufacturer: muRata(村田)  Supplier Part: C1518208  LCSC Part Name: 1uF ±10% 50V
容值:1uF;精度:±10%;额定电压:50V;材质(温度系数):X5R;; Datasheet: https://atta.szlcsc.com/upload/public/pdf/source/20210607/3F03D47137F6EC7729AB4067EB2A6EB3.pdf; Description_: 容值:1uF;精度:±10%;额定电压:50V;材质(温度系数):X5R;
pins: 1, 2

## GRM1555C1H200JA01D
designator *  Footprint: ProPrj_HTX-easyedapro:  Reference: C
pins: 1, 2

## Ground-GND
designator *  Footprint: ProPrj_HTX-easyedapro:  Reference: #PWR
pins: 1

## GT-TC074E-H070-L1
designator *  Footprint: ProPrj_HTX-easyedapro:SW-SMD_4P-L4.5-W4.5-P3.00-LS7.5  Supplier: LCSC  Reference: SW  Manufacturer Part: GT-TC074E-H070-L1  Manufacturer: G-Switch(品赞)  Supplier Part: C963228  LCSC Part Name: 4.5*4.5*7mm 立贴 轻触开关
电路结构:单刀单掷;按钮形状:圆形按钮;作用力:1.3N;安装方式:立贴;开关长度:4.5mm;开关宽度:4.5mm;开关高度:7mm;带支架:不带;触点电流:50mA;额定电压(DC):12V;绝缘电阻:100MΩ;带灯:无;机械寿命:10万次;; Datasheet: https://atta.szlcsc.com/upload/public/pdf/source/20200902/C778171_CAA5F7D188867E23168B3FF42AF8C49B.pdf; Description_: 电路结构:单刀单掷;按钮形状:圆形按钮;作用力:1.3N;安装方式:立贴;开关长度:4.5mm;开关宽度:4.5mm;开关高度:7mm;带支架:不带;触点电流:50mA;额定电压(DC):12V;绝缘电阻:100MΩ;带灯:无;机械寿命:10万次;
pins: 1, 2, 3, 4

## HC-FPC-05-20-26RLTAG
designator *  Footprint: ProPrj_HTX-easyedapro:FPC-SMD_26P-P0.50_HC-FPC-05-20-26RLTAG  Supplier: LCSC  Reference: FPC  Manufacturer Part: HC-FPC-05-20-26RLTAG  Manufacturer: HCTL(华灿天禄)  Supplier Part: C19270557  LCSC Part Name: 翻盖式 双侧触点/上下接 P数:26P 间距:0.5mm
锁定特性:翻盖式;触点类型:双侧触点/上下接;触点数量:26P;间距:0.5mm;安装方式:卧贴;工作温度:-25°C~+85°C;; Datasheet: https://atta.szlcsc.com/upload/public/pdf/source/20230428/0AE9D346991AE39DE386AA475B2AA925.pdf; Description_: 锁定特性:翻盖式;触点类型:双侧触点/上下接;触点数量:26P;间距:0.5mm;安装方式:卧贴;工作温度:-25°C~+85°C;
pins: 1, 2, 3, 4, 5, 6, 7, 8, 9, 10, 11, 12, 13, 14, 15, 16, 17, 18, 19, 20, 21, 22, 23, 24, 25, 26, 27, 28

## K2-1109SP-F3SA-04
designator *  Footprint: ProPrj_HTX-easyedapro:SW-SMD_4P-L4.5-W4.5-P3.00-LS7.0  Supplier: LCSC  Reference: SW  Manufacturer Part: K2-1109SP-F3SA-04  Manufacturer: 韩国韩荣  Supplier Part: C2685971  LCSC Part Name: 4.5*4.5*6 贴片轻触开关180G
作用力:180gf;安装方式:立贴;开关长度:4.5mm;开关宽度:4.5mm;开关高度:6mm;触点电流:50mA;额定电压(DC):12V;绝缘电阻:100MΩ;机械寿命:10万次;; Datasheet: https://atta.szlcsc.com/upload/public/pdf/source/20210810/49845446EAD3BCAD35997B0365C3ACCB.pdf; Description_: 作用力:180gf;安装方式:立贴;开关长度:4.5mm;开关宽度:4.5mm;开关高度:6mm;触点电流:50mA;额定电压(DC):12V;绝缘电阻:100MΩ;机械寿命:10万次;
pins: 1 T1, 2 T2, 3 T3, 4 T4

## K9-1267T
designator *  Footprint: ProPrj_HTX-easyedapro:SW-TH_K9-1267T  Supplier: LCSC  Reference: SW  Manufacturer Part: K9-1267T  Manufacturer: 韩国韩荣  Supplier Part: C107266  LCSC Part Name: 12.7*5.7*7.5mm 插件微动开关
类型:微动开关;电路结构:单刀双掷;额定电流(DC):100mA;额定电压(DC):30V;额定电流(AC):-;额定电压(AC):-;机械寿命:300万次;; Datasheet: https://atta.szlcsc.com/upload/public/pdf/source/20170413/1492062748888.pdf; Description_: 类型:微动开关;电路结构:单刀双掷;额定电流(DC):100mA;额定电压(DC):30V;额定电流(AC):-;额定电压(AC):-;机械寿命:300万次;
pins: 1 C, 2 ON, 3 NC

## KEYBOARD-SW
designator *  Footprint: ProPrj_HTX-easyedapro:MX-KEY-INSTALLED
pins: 1, 2

## LESD5Z5.0CT1G
designator *  Footprint: ProPrj_HTX-easyedapro:SOD-523_L1.2-W0.8-LS1.6-BI  Supplier: LCSC  Reference: D  Manufacturer Part: LESD5Z5.0CT1G  Manufacturer: LRC(乐山无线电)  Supplier Part: C136167  LCSC Part Name: 双向ESD
极性:双向;反向截止电压(Vrwm):5V;最大钳位电压:18.6V;峰值脉冲电流(Ipp):9.4A;击穿电压:5.6V;; Datasheet: https://atta.szlcsc.com/upload/public/pdf/source/20171026/C136167_15089841930291059137.pdf; Description_: 极性:双向;反向截止电压(Vrwm):5V;最大钳位电压:18.6V;峰值脉冲电流(Ipp):9.4A;击穿电压:5.6V;
pins: 1, 2

## ME6211C33M5G-N
designator *  Footprint: ProPrj_HTX-easyedapro:SOT-23-5_L3.0-W1.7-P0.95-LS2.8-BL  Supplier: LCSC  Reference: LDO  Manufacturer Part: ME6211C33M5G-N  Manufacturer: MICRONE(南京微盟)  Supplier Part: C82942  LCSC Part Name: 输入6V 输出3.3V 500mA
输出类型:固定;工作电压:6V;输出电压:3.3V;输出电流:500mA;电源纹波抑制比(PSRR):70dB@(1kHz)；62dB@(10kHz);输出极性:正极;; Datasheet: https://atta.szlcsc.com/upload/public/pdf/source/20170918/C82942_1505727073070976520.pdf; Description_: 输出类型:固定;工作电压:6V;输出电压:3.3V;输出电流:500mA;电源纹波抑制比(PSRR):70dB@(1kHz)；62dB@(10kHz);输出极性:正极;
pins: 1 VIN, 2 VSS, 3 CE, 4 NC, 5 VOUT

## MTP310-1104S2
designator *  Footprint: ProPrj_HTX-easyedapro:HDR-TH_4P-P1.27-V-M-1  Supplier: LCSC  Reference: U  Manufacturer Part: MTP310-1104S2  Manufacturer: MINTRON(明硕)  Supplier Part: C5142357  LCSC Part Name: 1x4P 间距:1.27mm
插针结构:1x4P;间距:1.27mm;排数:单排;总PIN位数:4P;配合针长度:4mm;塑高:1mm;端接针长度:2.5mm;; Datasheet: https://atta.szlcsc.com/upload/public/pdf/source/20230316/8F76C9A3DB8DD4D8B943212217EC6BF1.pdf; Description_: 插针结构:1x4P;间距:1.27mm;排数:单排;总PIN位数:4P;配合针长度:4mm;塑高:1mm;端接针长度:2.5mm;
pins: 1, 2, 3, 4

## MTP315-1106S2
designator *  Footprint: ProPrj_HTX-easyedapro:HDR-TH_6P-P1.27-V-M  Supplier: LCSC  Reference: U  Manufacturer Part: MTP315-1106S2  Manufacturer: MINTRON(明硕)  Supplier Part: C5142377  LCSC Part Name: 1x6P 间距:1.27mm
插针结构:1x6P;间距:1.27mm;排数:单排;总PIN位数:6P;配合针长度:4mm;塑高:1.5mm;端接针长度:2.5mm;; Datasheet: https://atta.szlcsc.com/upload/public/pdf/source/20230316/9BCAA1965C6A7F52C7563A5E7E0AAF60.pdf; Description_: 插针结构:1x6P;间距:1.27mm;排数:单排;总PIN位数:6P;配合针长度:4mm;塑高:1.5mm;端接针长度:2.5mm;
pins: 1, 2, 3, 4, 5, 6

## MX1A-11NW
designator *  Footprint: ProPrj_HTX-easyedapro:SW-TH_MX1A-11NW  Supplier: LCSC  Reference: SW  Manufacturer Part: MX1A-11NW  Manufacturer: CHERRY  Supplier Part: C3316924
LCSC Part Name: MX1A-11NW
pins: 1, 2

## Netport-IN
designator *  Footprint: ProPrj_HTX-easyedapro:  Reference: #PWR
Netport-IN; Description_: Netport-IN
pins: 1 IN

## Netport-OUT
designator *  Footprint: ProPrj_HTX-easyedapro:  Reference: #PWR
Netport-OUT; Description_: Netport-OUT
pins: 1 OUT

## NTA4151PT1G
designator *  Footprint: ProPrj_HTX-easyedapro:SOT-416_L1.6-W0.8-P1.00-LS1.6-BR  Supplier: LCSC  Reference: Q  Manufacturer Part: NTA4151PT1G  Manufacturer: onsemi(安森美)  Supplier Part: C54876  LCSC Part Name: P沟道 耐压:20V 电流:760mA
类型:P沟道;漏源电压(Vdss):20V;连续漏极电流(Id):760mA;功率(Pd):301mW;导通电阻(RDS(on)@Vgs,Id):360mΩ@4.5V,350mA;阈值电压(Vgs(th)@Id):1.2V@250uA;; Datasheet: https://atta.szlcsc.com/upload/public/pdf/source/20150811/1457707341956.pdf; Description_: 类型:P沟道;漏源电压(Vdss):20V;连续漏极电流(Id):760mA;功率(Pd):301mW;导通电阻(RDS(on)@Vgs,Id):360mΩ@4.5V,350mA;阈值电压(Vgs(th)@Id):1.2V@250uA;
pins: 1 G, 2 S, 3 D

## Power-VCC
designator *  Footprint: ProPrj_HTX-easyedapro:  Reference: #PWR
pins: 1

## PZ127V-11-04-0720
designator *  Footprint: ProPrj_HTX-easyedapro:HDR-TH_4P-P1.27-V-M  Supplier: LCSC  Reference: H  Manufacturer Part: PZ127V-11-04-0720  Manufacturer: XFCN(兴飞)  Supplier Part: C541879  LCSC Part Name: 间距:1.27mm 1x4P 直插
插针结构:1x4P;间距:1.27mm;行距:-;圆针/方针:-;安装类型:直插;排数:单排;总PIN位数:4P;额定电流:-;额定电压:-;配合针长度:3.9mm;塑高:1mm;端接针长度:2.3mm;触头材质:黄铜;触头镀层:-;工作温度范围:-40°C~+105°C;焊接温度(最大值):-;颜色:黑色;; Datasheet: https://atta.szlcsc.com/upload/public/pdf/source/20200519/C541879_5CD99C402ABEE613587AE88FBA356357.pdf; Description_: 插针结构:1x4P;间距:1.27mm;行距:-;圆针/方针:-;安装类型:直插;排数:单排;总PIN位数:4P;额定电流:-;额定电压:-;配合针长度:3.9mm;塑高:1mm;端接针长度:2.3mm;触头材质:黄铜;触头镀层:-;工作温度范围:-40°C~+105°C;焊接温度(最大值):-;颜色:黑色;
pins: 1, 2, 3, 4

## PZ254R-11-04P
designator *  Footprint: ProPrj_HTX-easyedapro:HDR-TH_4P-P2.54-H-M-W10.4  Supplier: LCSC  Reference: H  Manufacturer Part: PZ254R-11-04P  Manufacturer: XFCN(兴飞)  Supplier Part: C492412  LCSC Part Name: 间距:2.54mm 1x4P 弯插 方针
插针结构:1x4P;间距:2.54mm;行距:-;圆针/方针:方针;安装类型:弯插;排数:单排;总PIN位数:4P;额定电流:-;额定电压:-;配合针长度:6mm;塑高:2.5mm;触头材质:黄铜;触头镀层:-;工作温度范围:-40°C~+105°C;颜色:黑色;; Datasheet: https://atta.szlcsc.com/upload/public/pdf/source/20200309/C492412_B0EFFC1946AB079B8871416C4A09EF6C.pdf; Description_: 插针结构:1x4P;间距:2.54mm;行距:-;圆针/方针:方针;安装类型:弯插;排数:单排;总PIN位数:4P;额定电流:-;额定电压:-;配合针长度:6mm;塑高:2.5mm;触头材质:黄铜;触头镀层:-;工作温度范围:-40°C~+105°C;颜色:黑色;
pins: 1, 2, 3, 4

## PZ254R-11-07P
designator *  Footprint: ProPrj_HTX-easyedapro:HDR-TH_7P-P2.54-H-M-W10.4  Supplier: LCSC  Reference: H  Manufacturer Part: PZ254R-11-07P  Manufacturer: XFCN(兴飞)  Supplier Part: C492415  LCSC Part Name: 间距:2.54mm 1x7P 弯插 方针
插针结构:1x7P;间距:2.54mm;行距:-;圆针/方针:方针;安装类型:弯插;排数:单排;总PIN位数:7P;额定电流:-;额定电压:-;配合针长度:6mm;塑高:2.5mm;触头材质:黄铜;触头镀层:-;工作温度范围:-40°C~+105°C;颜色:黑色;; Datasheet: https://atta.szlcsc.com/upload/public/pdf/source/20200309/C492415_DA188E9910EB3F381D5A5032EE25D5A2.pdf; Description_: 插针结构:1x7P;间距:2.54mm;行距:-;圆针/方针:方针;安装类型:弯插;排数:单排;总PIN位数:7P;额定电流:-;额定电压:-;配合针长度:6mm;塑高:2.5mm;触头材质:黄铜;触头镀层:-;工作温度范围:-40°C~+105°C;颜色:黑色;
pins: 1, 2, 3, 4, 5, 6, 7

## PZ254V-11-02P
designator *  Footprint: ProPrj_HTX-easyedapro:HDR-TH_2P-P2.54-V-M  Supplier: LCSC  Reference: H  Manufacturer Part: PZ254V-11-02P  Manufacturer: XFCN(兴飞)  Supplier Part: C492401  LCSC Part Name: 间距:2.54mm 1x2P 直插 方针
插针结构:1x2P;间距:2.54mm;行距:-;圆针/方针:方针;安装类型:直插;排数:单排;总PIN位数:2P;额定电流:-;额定电压:-;配合针长度:6mm;塑高:2.5mm;端接针长度:3mm;触头材质:黄铜;触头镀层:-;工作温度范围:-40°C~+105°C;颜色:黑色;; Datasheet: https://atta.szlcsc.com/upload/public/pdf/source/20200309/C492401_A812433581A9B211A7FFA413ADDFF0E5.pdf; Description_: 插针结构:1x2P;间距:2.54mm;行距:-;圆针/方针:方针;安装类型:直插;排数:单排;总PIN位数:2P;额定电流:-;额定电压:-;配合针长度:6mm;塑高:2.5mm;端接针长度:3mm;触头材质:黄铜;触头镀层:-;工作温度范围:-40°C~+105°C;颜色:黑色;
pins: 1, 2

## PZ254V-11-03P_C2937625
designator *  Footprint: ProPrj_HTX-easyedapro:HDR-TH_3P-P2.54-V-M  Supplier: LCSC  Reference: H  Manufacturer Part: PZ254V-11-03P  Manufacturer: XFCN(兴飞)  Supplier Part: C2937625  LCSC Part Name: 间距:2.54mm 1x3P 直插 方针
插针结构:1x3P;间距:2.54mm;行距:-;圆针/方针:方针;安装类型:直插;排数:单排;总PIN位数:3P;额定电流:3A;额定电压:250V;配合针长度:6mm;塑高:2.5mm;端接针长度:3mm;工作温度范围:-40°C~+105°C;颜色:黑色;; Datasheet: https://atta.szlcsc.com/upload/public/pdf/source/20200309/C492402_8335C3D49C4E4C618838D59BB1D024C1.pdf; Description_: 插针结构:1x3P;间距:2.54mm;行距:-;圆针/方针:方针;安装类型:直插;排数:单排;总PIN位数:3P;额定电流:3A;额定电压:250V;配合针长度:6mm;塑高:2.5mm;端接针长度:3mm;工作温度范围:-40°C~+105°C;颜色:黑色;
pins: 1, 2, 3

## PZ254V-11-12P
designator *  Footprint: ProPrj_HTX-easyedapro:HDR-TH_12P-P2.54-V-M  Supplier: LCSC  Reference: H  Manufacturer Part: PZ254V-11-12P  Manufacturer: XFCN(兴飞)  Supplier Part: C2840012  LCSC Part Name: 间距:2.54mm 1x12P 直插 方针
插针结构:1x12P;间距:2.54mm;行距:-;圆针/方针:方针;安装类型:直插;排数:单排;总PIN位数:12P;额定电流:3A;额定电压:250V;配合针长度:6mm;塑高:2.5mm;端接针长度:3mm;触头材质:-;工作温度范围:-40°C~+105°C;颜色:黑色;; Datasheet: https://atta.szlcsc.com/upload/public/pdf/source/20200309/C492403_F9F19131791D08044AD4F84F8E751A34.pdf; Description_: 插针结构:1x12P;间距:2.54mm;行距:-;圆针/方针:方针;安装类型:直插;排数:单排;总PIN位数:12P;额定电流:3A;额定电压:250V;配合针长度:6mm;塑高:2.5mm;端接针长度:3mm;触头材质:-;工作温度范围:-40°C~+105°C;颜色:黑色;
pins: 1, 2, 3, 4, 5, 6, 7, 8, 9, 10, 11, 12

## Q13FC1350000400
designator *  value 32.768kHz  Footprint: ProPrj_HTX-easyedapro:FC-135R_L3.2-W1.5  Supplier: LCSC  Reference: X  Manufacturer Part: Q13FC13500004  Manufacturer: EPSON(爱普生)  Supplier Part: C32346  LCSC Part Name: 32.768kHz ±20ppm 12.5pF
晶振类型:贴片晶振;频率:32.768kHz;常温频差:±20ppm;负载电容:12.5pF;; Datasheet: https://atta.szlcsc.com/upload/public/pdf/source/20240418/0E0FF5F0356BA3753F616001439D1416.pdf; Description_: 晶振类型:贴片晶振;频率:32.768kHz;常温频差:±20ppm;负载电容:12.5pF;
pins: 1, 2

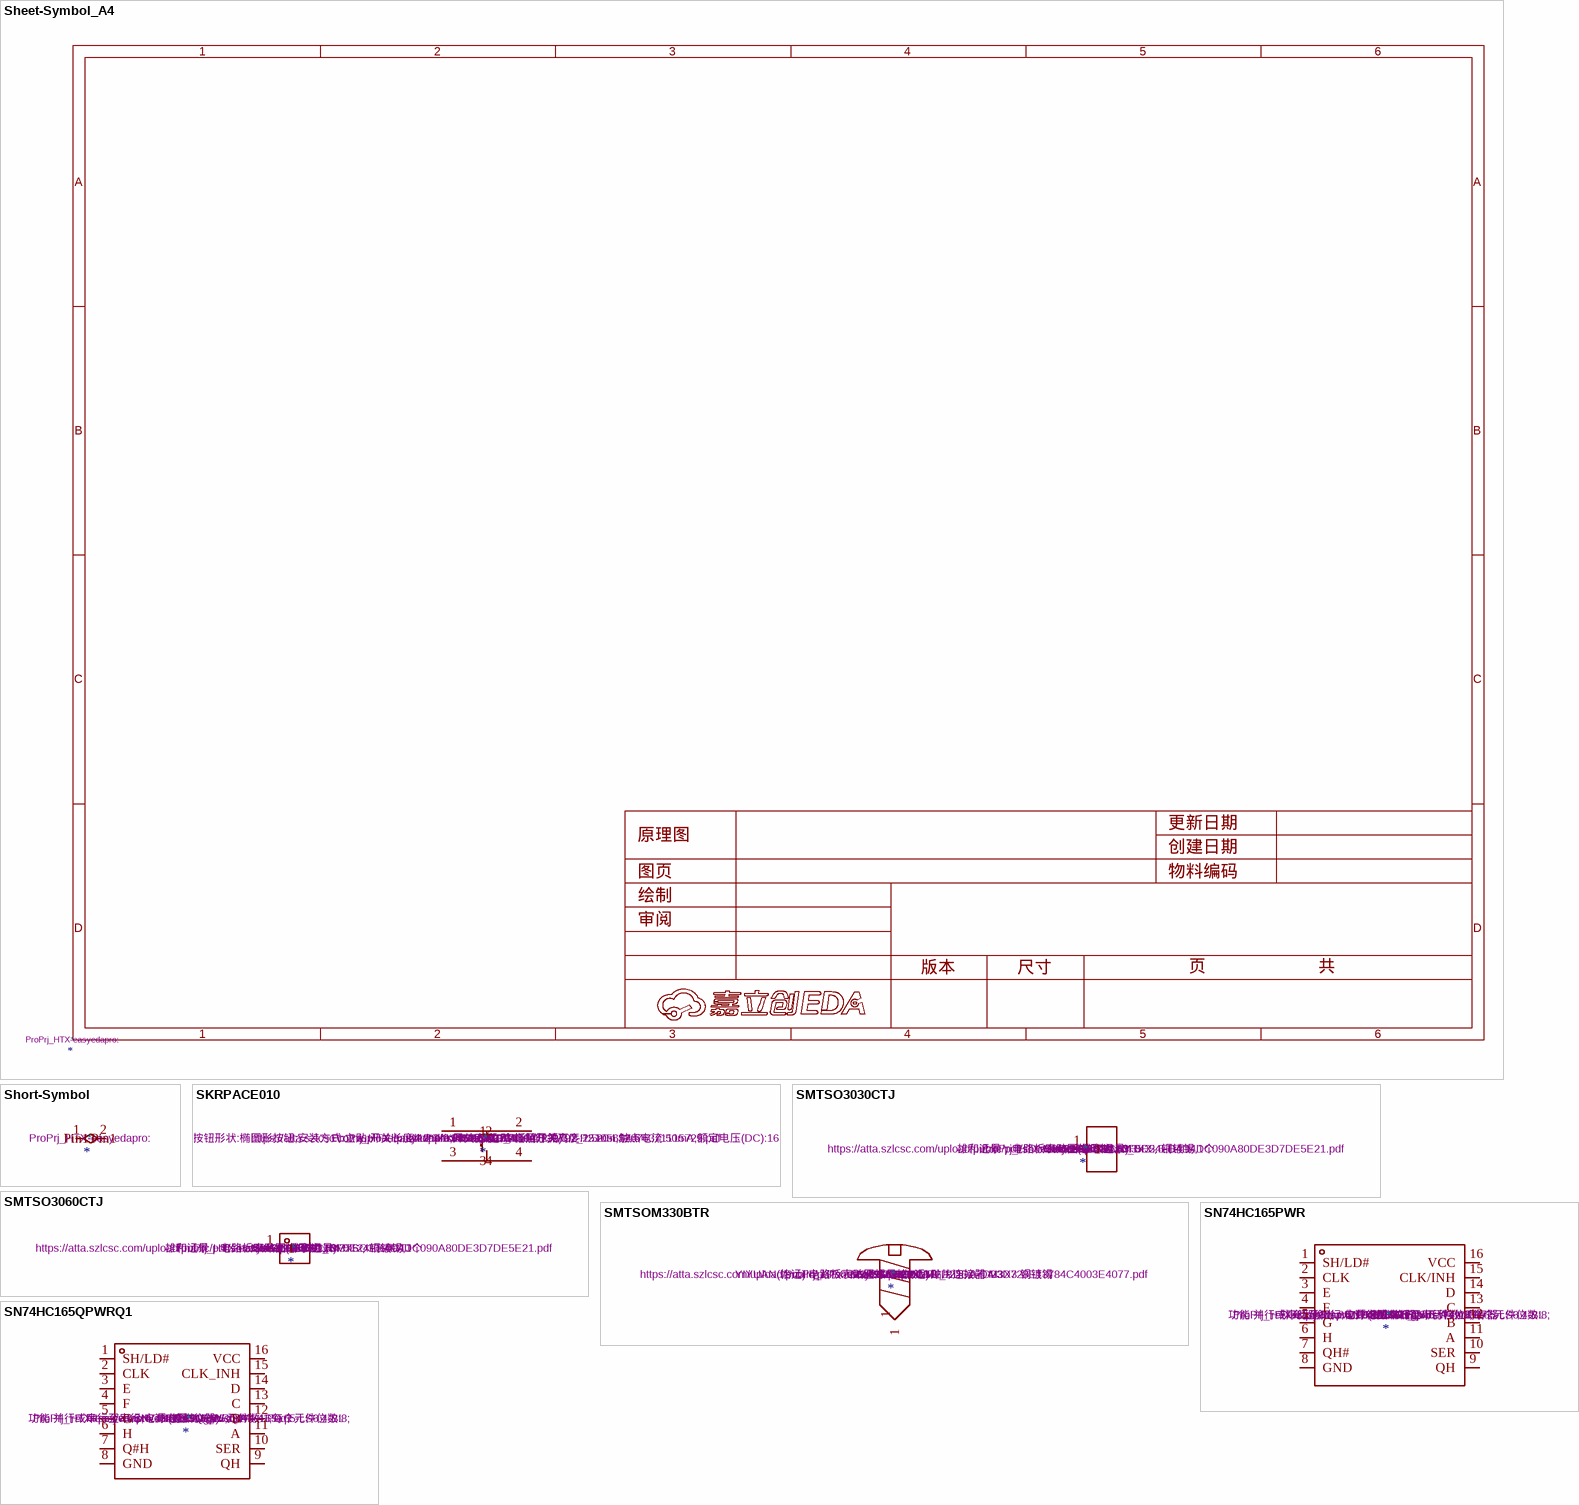
[diagram p3: symbols Sheet-Symbol_A4 to SN74HC165QPWRQ1]

## Sheet-Symbol_A4
designator *  Footprint: ProPrj_HTX-easyedapro:
text: 1; 2; 3; 4; 5; 6; A; B; C; 更新日期; 原理图; 创建日期; 图页; 物料编码; 绘制; 审阅; D; 版本; 尺寸; 页; 共

## Short-Symbol
designator *  Footprint: ProPrj_HTX-easyedapro:
pins: 1 Pin1, 2 Pin1

## SKRPACE010
designator *  Footprint: ProPrj_HTX-easyedapro:KEY-SMD_4P-L4.2-W3.2-P2.20-LS4.6  Supplier: LCSC  Reference: SW  Manufacturer Part: SKRPACE010  Manufacturer: ALPSALPINE(阿尔卑斯阿尔派)  Supplier Part: C139797  LCSC Part Name: 4.2*3.2*2.5mm 立贴 轻触开关
电路结构:单刀单掷;按钮形状:椭圆形按钮;安装方式:立贴;开关长度:4.2mm;开关宽度:3.2mm;开关高度:2.5mm;触点电流:50mA;额定电压(DC):16V;带灯:-;机械寿命:-;; Datasheet: https://atta.szlcsc.com/upload/public/pdf/source/20171113/C139797_15105612676371115729.pdf; Description_: 电路结构:单刀单掷;按钮形状:椭圆形按钮;安装方式:立贴;开关长度:4.2mm;开关宽度:3.2mm;开关高度:2.5mm;触点电流:50mA;额定电压(DC):16V;带灯:-;机械寿命:-;
pins: 1, 2, 3, 4

## SMTSO3030CTJ
designator *  Footprint: ProPrj_HTX-easyedapro:SMD_BD5.6-D4.1  Supplier: LCSC  Reference: U  Manufacturer Part: SMTSO3030CTJ  Manufacturer: Sinhoo(雄和远景)  Supplier Part: C2915308  LCSC Part Name: 雄和远景，电路板表贴圆螺母柱，M3X3，铜镀锡,1个
M3x5.56xL3+1.53; Datasheet: https://atta.szlcsc.com/upload/public/pdf/source/20211122/17CF5E24EB4D4DC090A80DE3D7DE5E21.pdf; Description_: M3x5.56xL3+1.53
pins: 1

## SMTSO3060CTJ
designator *  Footprint: ProPrj_HTX-easyedapro:SMD_SMTSO3060CTJ  Supplier: LCSC  Reference: U  Manufacturer Part: SMTSO3060CTJ  Manufacturer: Sinhoo(雄和远景)  Supplier Part: C2915637  LCSC Part Name: 雄和远景，电路板表贴圆螺母柱，M3X6，铜镀锡,1个
M3x5.56xL6+1.53; Datasheet: https://atta.szlcsc.com/upload/public/pdf/source/20211122/17CF5E24EB4D4DC090A80DE3D7DE5E21.pdf; Description_: M3x5.56xL6+1.53
pins: 1

## SMTSOM330BTR
designator *  Footprint: ProPrj_HTX-easyedapro:M3-TH_BD6.0-D4.3  Supplier: LCSC  Reference: CN  Manufacturer Part: SMTSOM330BTR  Manufacturer: YIYUAN(怡远)  Supplier Part: C5221843  LCSC Part Name: YIYUAN(怡远) 电路板表贴圆螺母柱PCB贴片连接器 M3X3 铜镀锡
M3x5.56xL3+1.53; Datasheet: https://atta.szlcsc.com/upload/public/pdf/source/20230202/A42D22DA7D93D728E13784C4003E4077.pdf; Description_: M3x5.56xL3+1.53
pins: 1

## SN74HC165PWR
designator *  Footprint: ProPrj_HTX-easyedapro:TSSOP-16_L5.0-W4.4-P0.65-LS6.4-BL  Supplier: LCSC  Reference: U  Manufacturer Part: SN74HC165PWR  Manufacturer: TI(德州仪器)  Supplier Part: C43420  LCSC Part Name: 补充型输出 8位并行或串行至串行移位寄存器
功能:并行或串行至串行;电源电压:2V~6V;元件数:1;每个元件位数:8;; Datasheet: https://www.ti.com/cn/lit/gpn/sn74hc165; Description_: 功能:并行或串行至串行;电源电压:2V~6V;元件数:1;每个元件位数:8;
pins: 1 SH/LD#, 2 CLK, 3 E, 4 F, 5 G, 6 H, 7 QH#, 8 GND, 9 QH, 10 SER, 11 A, 12 B, 13 C, 14 D, 15 CLK/INH, 16 VCC

## SN74HC165QPWRQ1
designator *  Footprint: ProPrj_HTX-easyedapro:TSSOP-16_L5.0-W4.4-P0.65-LS6.4-BL  Supplier: LCSC  Reference: U  Manufacturer Part: SN74HC165QPWRQ1  Manufacturer: TI(德州仪器)  Supplier Part: C2877051
功能:并行或串行至串行;电源电压:2V~6V;元件数:1;每个元件位数:8;; Datasheet: https://www.ti.com/cn/lit/gpn/sn74hc165-q1; Description_: 功能:并行或串行至串行;电源电压:2V~6V;元件数:1;每个元件位数:8;; LCSC Part Name: SN74HC165QPWRQ1
pins: 1 SH/LD#, 2 CLK, 3 E, 4 F, 5 G, 6 H, 7 Q#H, 8 GND, 9 QH, 10 SER, 11 A, 12 B, 13 C, 14 D, 15 CLK_INH, 16 VCC

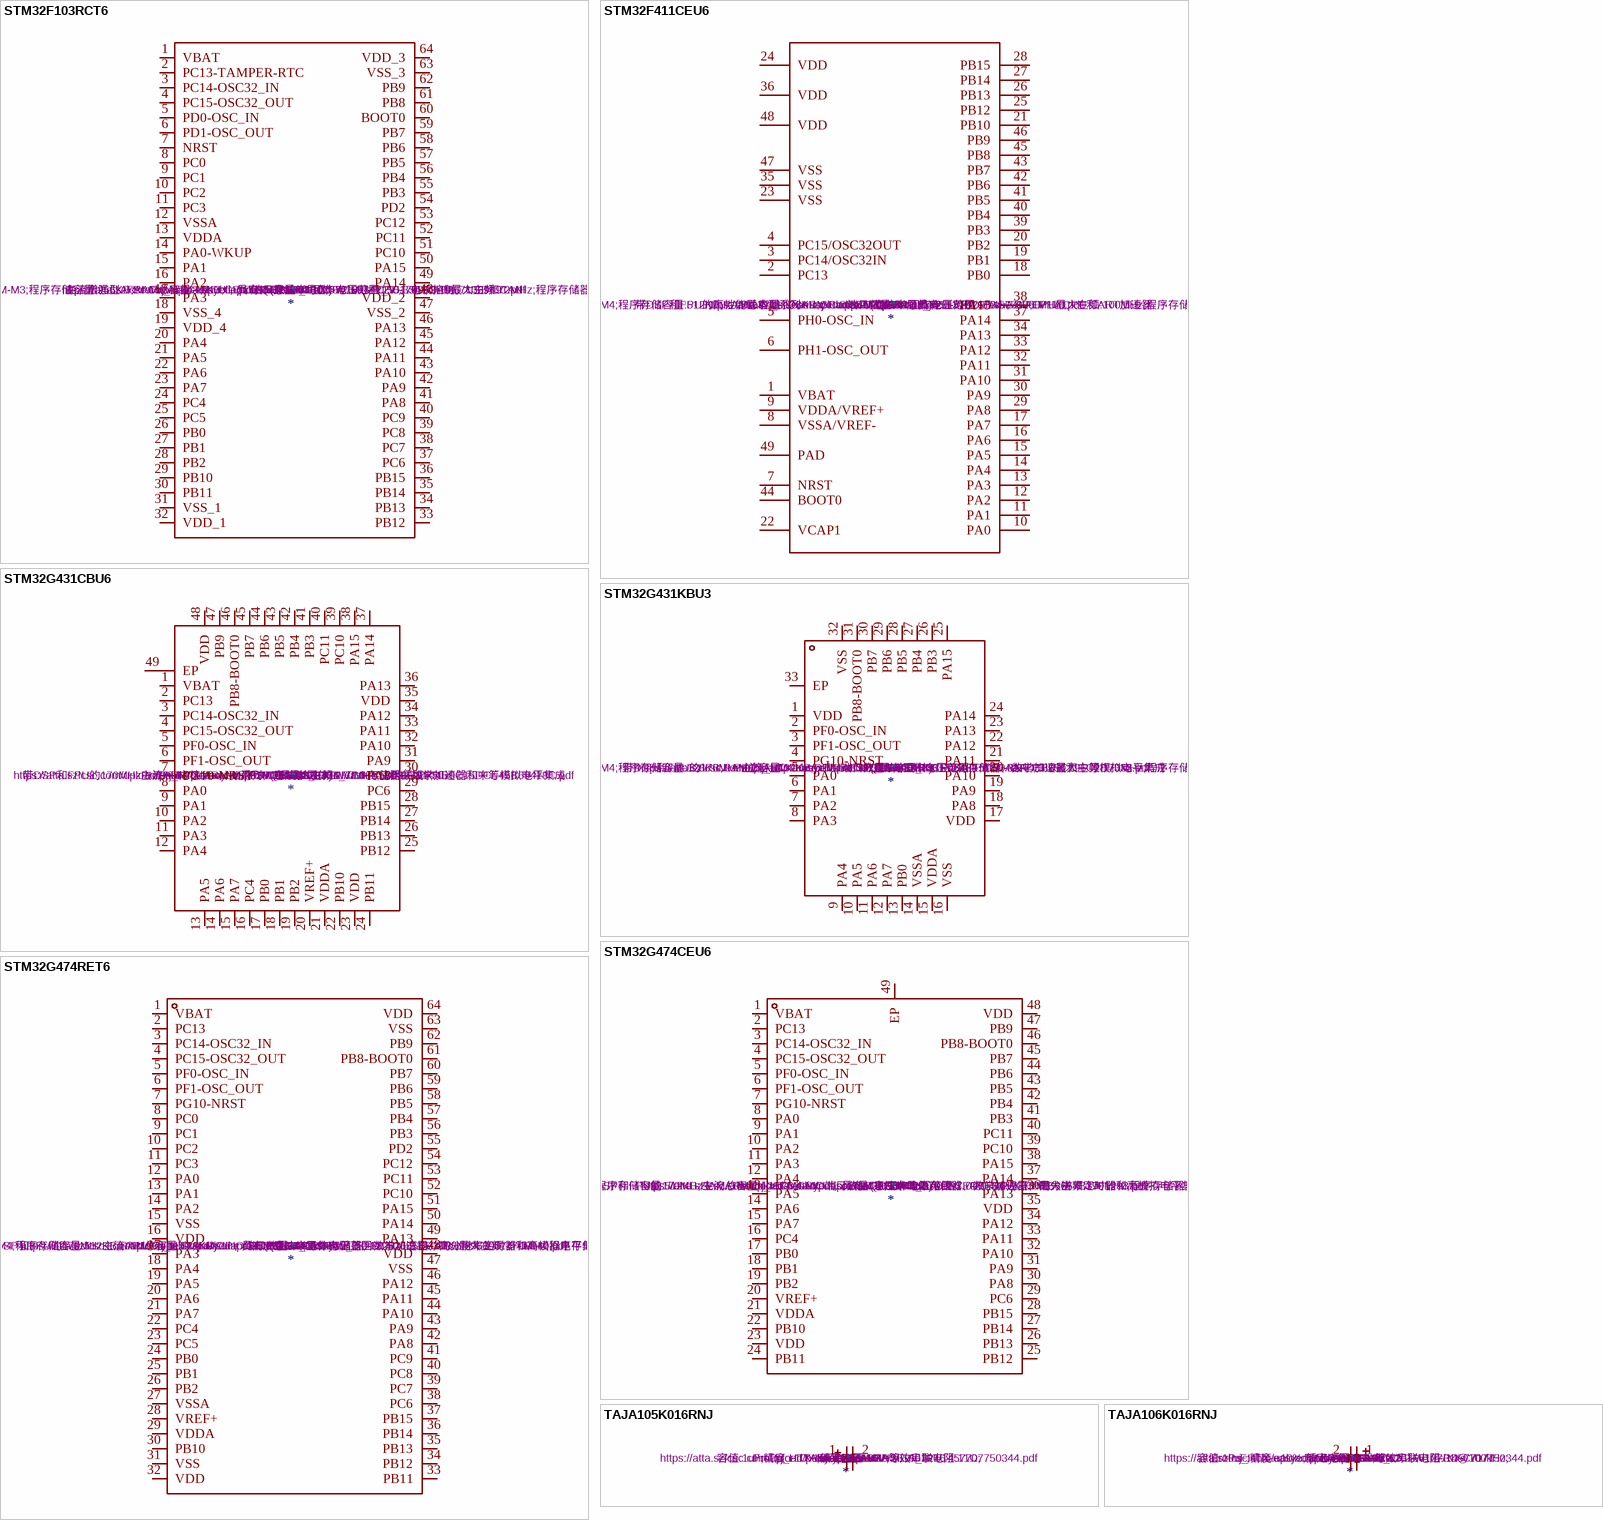
[diagram p4: symbols STM32F103RCT6 to TAJA106K016RNJ]

## STM32F103RCT6
designator *  Footprint: ProPrj_HTX-easyedapro:LQFP-64_L10.0-W10.0-P0.50-LS12.0-BL  Supplier: LCSC  Reference: U  Manufacturer Part: STM32F103RCT6  Manufacturer: ST(意法半导体)  Supplier Part: C8323  LCSC Part Name: 主流增强型ARM Cortex-M3 MCU，具有256 KB Flash、72 MHz CPU、电机控制、USB和CAN
CPU内核:ARM-M3;程序存储容量:256KB;RAM总容量:48KB;GPIO端口数量:51;工作电压范围:2V~3.6V;CPU最大主频:72MHz;程序存储器类型:FLASH;; Datasheet: https://atta.szlcsc.com/upload/public/pdf/source/20180207/C88442_15179953708671359491.pdf; Description_: CPU内核:ARM-M3;程序存储容量:256KB;RAM总容量:48KB;GPIO端口数量:51;工作电压范围:2V~3.6V;CPU最大主频:72MHz;程序存储器类型:FLASH;
pins: 1 VBAT, 2 PC13-TAMPER-RTC, 3 PC14-OSC32_IN, 4 PC15-OSC32_OUT, 5 PD0-OSC_IN, 6 PD1-OSC_OUT, 7 NRST, 8 PC0, 9 PC1, 10 PC2, 11 PC3, 12 VSSA, 13 VDDA, 14 PA0-WKUP, 15 PA1, 16 PA2, 17 PA3, 18 VSS_4, 19 VDD_4, 20 PA4, 21 PA5, 22 PA6, 23 PA7, 24 PC4, 25 PC5, 26 PB0, 27 PB1, 28 PB2, 29 PB10, 30 PB11, 31 VSS_1, 32 VDD_1, 33 PB12, 34 PB13, 35 PB14, 36 PB15, 37 PC6, 38 PC7, 39 PC8, 40 PC9, 41 PA8, 42 PA9, 43 PA10, 44 PA11, 45 PA12, 46 PA13, 47 VSS_2, 48 VDD_2, 49 PA14, 50 PA15, 51 PC10, 52 PC11, 53 PC12, 54 PD2, 55 PB3, 56 PB4, 57 PB5, 58 PB6, 59 PB7, 60 BOOT0, 61 PB8, 62 PB9, 63 VSS_3, 64 VDD_3

## STM32F411CEU6
designator *  Footprint: ProPrj_HTX-easyedapro:UFQFPN-48_L7.0-W7.0-P0.50-BL-EP  Supplier: LCSC  Reference: U  Manufacturer Part: STM32F411CEU6  Manufacturer: ST(意法半导体)  Supplier Part: C60420  LCSC Part Name: 带DSP和FPU的高性能基本型系列ARM Cortex-M4 MCU，具有512 KB Flash、100 MHz CPU和ART加速器
CPU内核:ARM-M4;程序存储容量:512KB;RAM总容量:128KB;GPIO端口数量:36;工作电压范围:1.7V~3.6V;CPU最大主频:100MHz;程序存储器类型:FLASH;; Datasheet: https://atta.szlcsc.com/upload/public/pdf/source/20151026/1457707507170.pdf; Description_: CPU内核:ARM-M4;程序存储容量:512KB;RAM总容量:128KB;GPIO端口数量:36;工作电压范围:1.7V~3.6V;CPU最大主频:100MHz;程序存储器类型:FLASH;
pins: 1 VBAT, 2 PC13, 3 PC14/OSC32IN, 4 PC15/OSC32OUT, 5 PH0-OSC_IN, 6 PH1-OSC_OUT, 7 NRST, 8 VSSA/VREF-, 9 VDDA/VREF+, 10 PA0, 11 PA1, 12 PA2, 13 PA3, 14 PA4, 15 PA5, 16 PA6, 17 PA7, 18 PB0, 19 PB1, 20 PB2, 21 PB10, 22 VCAP1, 23 VSS, 24 VDD, 25 PB12, 26 PB13, 27 PB14, 28 PB15, 29 PA8, 30 PA9, 31 PA10, 32 PA11, 33 PA12, 34 PA13, 35 VSS, 36 VDD, 37 PA14, 38 PA15, 39 PB3, 40 PB4, 41 PB5, 42 PB6, 43 PB7, 44 BOOT0, 45 PB8, 46 PB9, 47 VSS, 48 VDD, 49 PAD

## STM32G431CBU6
designator *  Footprint: ProPrj_HTX-easyedapro:VQFN-48_L7.0-W7.0-P0.50-BL-EP5.5  Supplier: LCSC  Reference: U  Manufacturer Part: STM32G431CBU6  Manufacturer: ST(意法半导体)  Supplier Part: C529356  LCSC Part Name: 带DSP和FPU的170MHz主流ARM Cortex-M4 MCU，具有128 KB Flash存储器、数学加速器和中等模拟电平集成
CPU内核:ARM-M系列;CPU最大主频:170MHz;应用领域:-;; Datasheet: https://atta.szlcsc.com/upload/public/pdf/source/20200511/C529354_7C66CF00837B904D0C15DCE45B69418C.pdf; Description_: CPU内核:ARM-M系列;CPU最大主频:170MHz;应用领域:-;
pins: 1 VBAT, 2 PC13, 3 PC14-OSC32_IN, 4 PC15-OSC32_OUT, 5 PF0-OSC_IN, 6 PF1-OSC_OUT, 7 PG10-NRST, 8 PA0, 9 PA1, 10 PA2, 11 PA3, 12 PA4, 13 PA5, 14 PA6, 15 PA7, 16 PC4, 17 PB0, 18 PB1, 19 PB2, 20 VREF+, 21 VDDA, 22 PB10, 23 VDD, 24 PB11, 25 PB12, 26 PB13, 27 PB14, 28 PB15, 29 PC6, 30 PA8, 31 PA9, 32 PA10, 33 PA11, 34 PA12, 35 VDD, 36 PA13, 37 PA14, 38 PA15, 39 PC10, 40 PC11, 41 PB3, 42 PB4, 43 PB5, 44 PB6, 45 PB7, 46 PB8-BOOT0, 47 PB9, 48 VDD, 49 EP

## STM32G431KBU3
designator *  Footprint: ProPrj_HTX-easyedapro:UFQFPN-32_L5.0-W5.0-P0.50-BL-EP3.5  Supplier: LCSC  Reference: U  Manufacturer Part: STM32G431KBU3  Manufacturer: ST(意法半导体)  Supplier Part: C1341901  LCSC Part Name: 带DSP和FPU的170MHz主流ARM Cortex-M4 MCU，具有128 KB Flash存储器、数学加速器和中等模拟电平集成
CPU内核:ARM-M4;程序存储容量:128KB;RAM总容量:32KB;GPIO端口数量:26;工作电压范围:1.71V~3.6V;CPU最大主频:170MHz;程序存储器类型:FLASH;; Datasheet: https://atta.szlcsc.com/upload/public/pdf/source/20210607/F3CD0646E5D00AAFDE875C196C2D7333.pdf; Description_: CPU内核:ARM-M4;程序存储容量:128KB;RAM总容量:32KB;GPIO端口数量:26;工作电压范围:1.71V~3.6V;CPU最大主频:170MHz;程序存储器类型:FLASH;
pins: 1 VDD, 2 PF0-OSC_IN, 3 PF1-OSC_OUT, 4 PG10-NRST, 5 PA0, 6 PA1, 7 PA2, 8 PA3, 9 PA4, 10 PA5, 11 PA6, 12 PA7, 13 PB0, 14 VSSA, 15 VDDA, 16 VSS, 17 VDD, 18 PA8, 19 PA9, 20 PA10, 21 PA11, 22 PA12, 23 PA13, 24 PA14, 25 PA15, 26 PB3, 27 PB4, 28 PB5, 29 PB6, 30 PB7, 31 PB8-BOOT0, 32 VSS, 33 EP

## STM32G474CEU6
designator *  Footprint: ProPrj_HTX-easyedapro:UFQFPN-48_L7.0-W7.0-P0.50-BL-EP5.6  Supplier: LCSC  Reference: U  Manufacturer Part: STM32G474CEU6  Manufacturer: ST(意法半导体)  Supplier Part: C1235412  LCSC Part Name: 带DSP和FPU的170MHz主流ARM Cortex-M4 MCU，具有512 KB Flash存储器、数学加速器、高分辨率定时器和高模拟电平集成
CPU内核:-;程序存储容量:512KB;RAM总容量:128KB;GPIO端口数量:38;工作电压范围:1.71V~3.6V;CPU最大主频:170MHz;程序存储器类型:FLASH;; Datasheet: https://atta.szlcsc.com/upload/public/pdf/source/20210601/070C5CED5EB45737871E6667B39F1293.pdf; Description_: CPU内核:-;程序存储容量:512KB;RAM总容量:128KB;GPIO端口数量:38;工作电压范围:1.71V~3.6V;CPU最大主频:170MHz;程序存储器类型:FLASH;
pins: 1 VBAT, 2 PC13, 3 PC14-OSC32_IN, 4 PC15-OSC32_OUT, 5 PF0-OSC_IN, 6 PF1-OSC_OUT, 7 PG10-NRST, 8 PA0, 9 PA1, 10 PA2, 11 PA3, 12 PA4, 13 PA5, 14 PA6, 15 PA7, 16 PC4, 17 PB0, 18 PB1, 19 PB2, 20 VREF+, 21 VDDA, 22 PB10, 23 VDD, 24 PB11, 25 PB12, 26 PB13, 27 PB14, 28 PB15, 29 PC6, 30 PA8, 31 PA9, 32 PA10, 33 PA11, 34 PA12, 35 VDD, 36 PA13, 37 PA14, 38 PA15, 39 PC10, 40 PC11, 41 PB3, 42 PB4, 43 PB5, 44 PB6, 45 PB7, 46 PB8-BOOT0, 47 PB9, 48 VDD, 49 EP

## STM32G474RET6
designator *  Footprint: ProPrj_HTX-easyedapro:LQFP-64_L10.0-W10.0-P0.50-LS12.0-BL  Supplier: LCSC  Reference: U  Manufacturer Part: STM32G474RET6  Manufacturer: ST(意法半导体)  Supplier Part: C521608  LCSC Part Name: 带DSP和FPU的170MHz主流ARM Cortex-M4 MCU，具有512 KB Flash存储器、数学加速器、高分辨率定时器和高模拟电平集成
CPU内核:ARM-M4;程序存储容量:512KB;RAM总容量:128KB;GPIO端口数量:52;工作电压范围:1.71V~3.6V;CPU最大主频:170MHz;程序存储器类型:FLASH;; Datasheet: https://atta.szlcsc.com/upload/public/pdf/source/20200902/C431632_38212262685EE30B1989689374F08940.pdf; Description_: CPU内核:ARM-M4;程序存储容量:512KB;RAM总容量:128KB;GPIO端口数量:52;工作电压范围:1.71V~3.6V;CPU最大主频:170MHz;程序存储器类型:FLASH;
pins: 1 VBAT, 2 PC13, 3 PC14-OSC32_IN, 4 PC15-OSC32_OUT, 5 PF0-OSC_IN, 6 PF1-OSC_OUT, 7 PG10-NRST, 8 PC0, 9 PC1, 10 PC2, 11 PC3, 12 PA0, 13 PA1, 14 PA2, 15 VSS, 16 VDD, 17 PA3, 18 PA4, 19 PA5, 20 PA6, 21 PA7, 22 PC4, 23 PC5, 24 PB0, 25 PB1, 26 PB2, 27 VSSA, 28 VREF+, 29 VDDA, 30 PB10, 31 VSS, 32 VDD, 33 PB11, 34 PB12, 35 PB13, 36 PB14, 37 PB15, 38 PC6, 39 PC7, 40 PC8, 41 PC9, 42 PA8, 43 PA9, 44 PA10, 45 PA11, 46 PA12, 47 VSS, 48 VDD, 49 PA13, 50 PA14, 51 PA15, 52 PC10, 53 PC11, 54 PC12, 55 PD2, 56 PB3, 57 PB4, 58 PB5, 59 PB6, 60 PB7, 61 PB8-BOOT0, 62 PB9, 63 VSS, 64 VDD

## TAJA105K016RNJ
designator *  value 1uF  Footprint: ProPrj_HTX-easyedapro:CASE-A_3216  Supplier: LCSC  Reference: C  Manufacturer Part: TAJA105K016RNJ  Manufacturer: Kyocera AVX  Supplier Part: C7174  LCSC Part Name: 1uF ±10% 16V
容值:1uF;精度:±10%;额定电压:16V;等效串联电阻:11Ω;; Datasheet: https://atta.szlcsc.com/upload/public/pdf/source/20160107/1457707750344.pdf; Description_: 容值:1uF;精度:±10%;额定电压:16V;等效串联电阻:11Ω;
pins: 1, 2

## TAJA106K016RNJ
designator *  value 10uF  Footprint: ProPrj_HTX-easyedapro:CAP-SMD_L3.2-W1.6-RD-C7171  Supplier: LCSC  Reference: C  Manufacturer Part: TAJA106K016RNJ  Manufacturer: Kyocera AVX  Supplier Part: C7171  LCSC Part Name: 10uF ±10% 16V
容值:10uF;精度:±10%;额定电压:16V;等效串联电阻:3Ω@100kHz;; Datasheet: https://atta.szlcsc.com/upload/public/pdf/source/20160107/1457707750344.pdf; Description_: 容值:10uF;精度:±10%;额定电压:16V;等效串联电阻:3Ω@100kHz;
pins: 1, 2

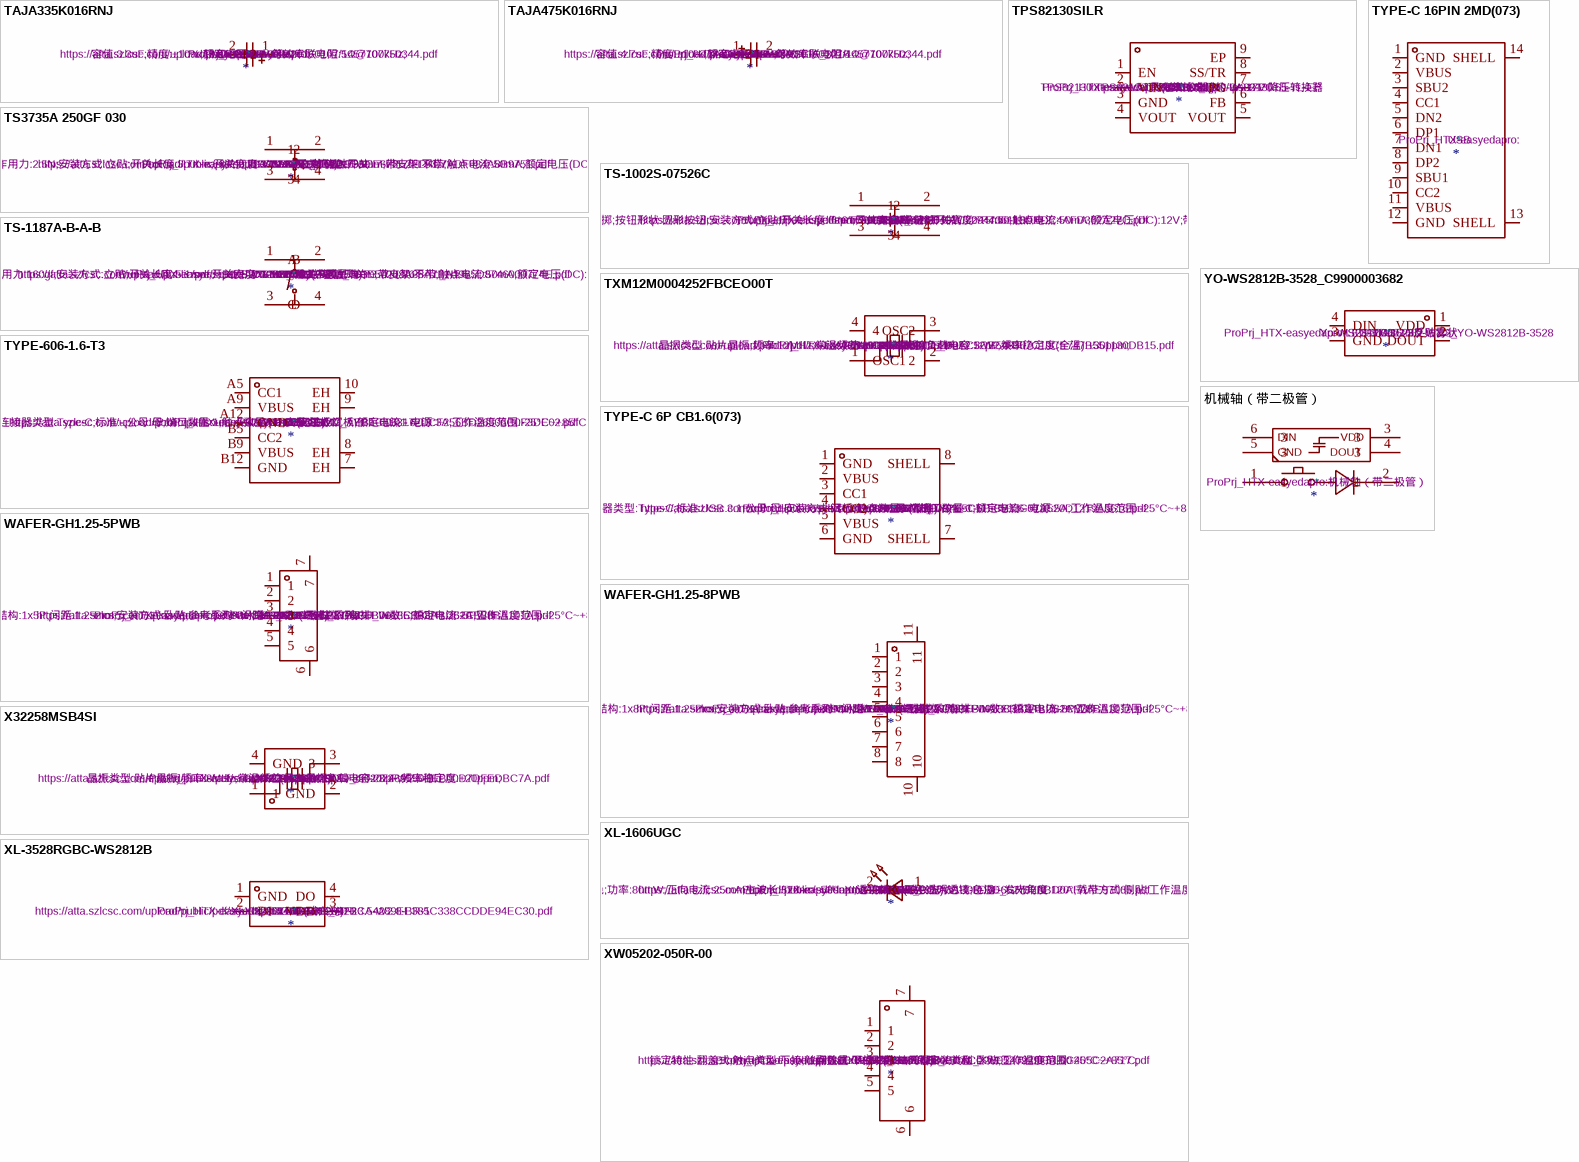
[diagram p5: symbols TAJA335K016RNJ to 机械轴（带二极管）]

## TAJA335K016RNJ
designator *  value 3.3uF  Footprint: ProPrj_HTX-easyedapro:  Supplier: LCSC  Reference: C  Manufacturer Part: TAJA335K016RNJ  Manufacturer: Kyocera AVX  Supplier Part: C7184  LCSC Part Name: 3.3uF ±10% 16V
容值:3.3uF;精度:±10%;额定电压:16V;等效串联电阻:5Ω@100kHz;; Datasheet: https://atta.szlcsc.com/upload/public/pdf/source/20160107/1457707750344.pdf; Description_: 容值:3.3uF;精度:±10%;额定电压:16V;等效串联电阻:5Ω@100kHz;
pins: 1, 2

## TAJA475K016RNJ
designator *  value 4.7uF  Footprint: ProPrj_HTX-easyedapro:CASE-A_3216  Supplier: LCSC  Reference: C  Manufacturer Part: TAJA475K016RNJ  Manufacturer: Kyocera AVX  Supplier Part: C7187  LCSC Part Name: 4.7uF ±10% 16V
容值:4.7uF;精度:±10%;额定电压:16V;等效串联电阻:4Ω@100kHz;; Datasheet: https://atta.szlcsc.com/upload/public/pdf/source/20160107/1457707750344.pdf; Description_: 容值:4.7uF;精度:±10%;额定电压:16V;等效串联电阻:4Ω@100kHz;
pins: 1, 2

## TPS82130SILR
designator *  Footprint: ProPrj_HTX-easyedapro:USIP-8_L3.0-W2.8-P0.65-TL-EP  Supplier: LCSC  Reference: U  Manufacturer Part: TPS82130SILR  Manufacturer: TI(德州仪器)  Supplier Part: C473914
TPS82130 TPS82130 具有集成电感的 3A 17V 降压转换器; Datasheet: https://www.ti.com/cn/lit/gpn/tps82130; Description_: TPS82130 TPS82130 具有集成电感的 3A 17V 降压转换器; LCSC Part Name: TPS82130SILR
pins: 1 EN, 2 VIN, 3 GND, 4 VOUT, 5 VOUT, 6 FB, 7 PG, 8 SS/TR, 9 EP